# Altium integrated library ST Microcontroller 8-Bit.IntLib: 1326 symbols (part 20 of 31)
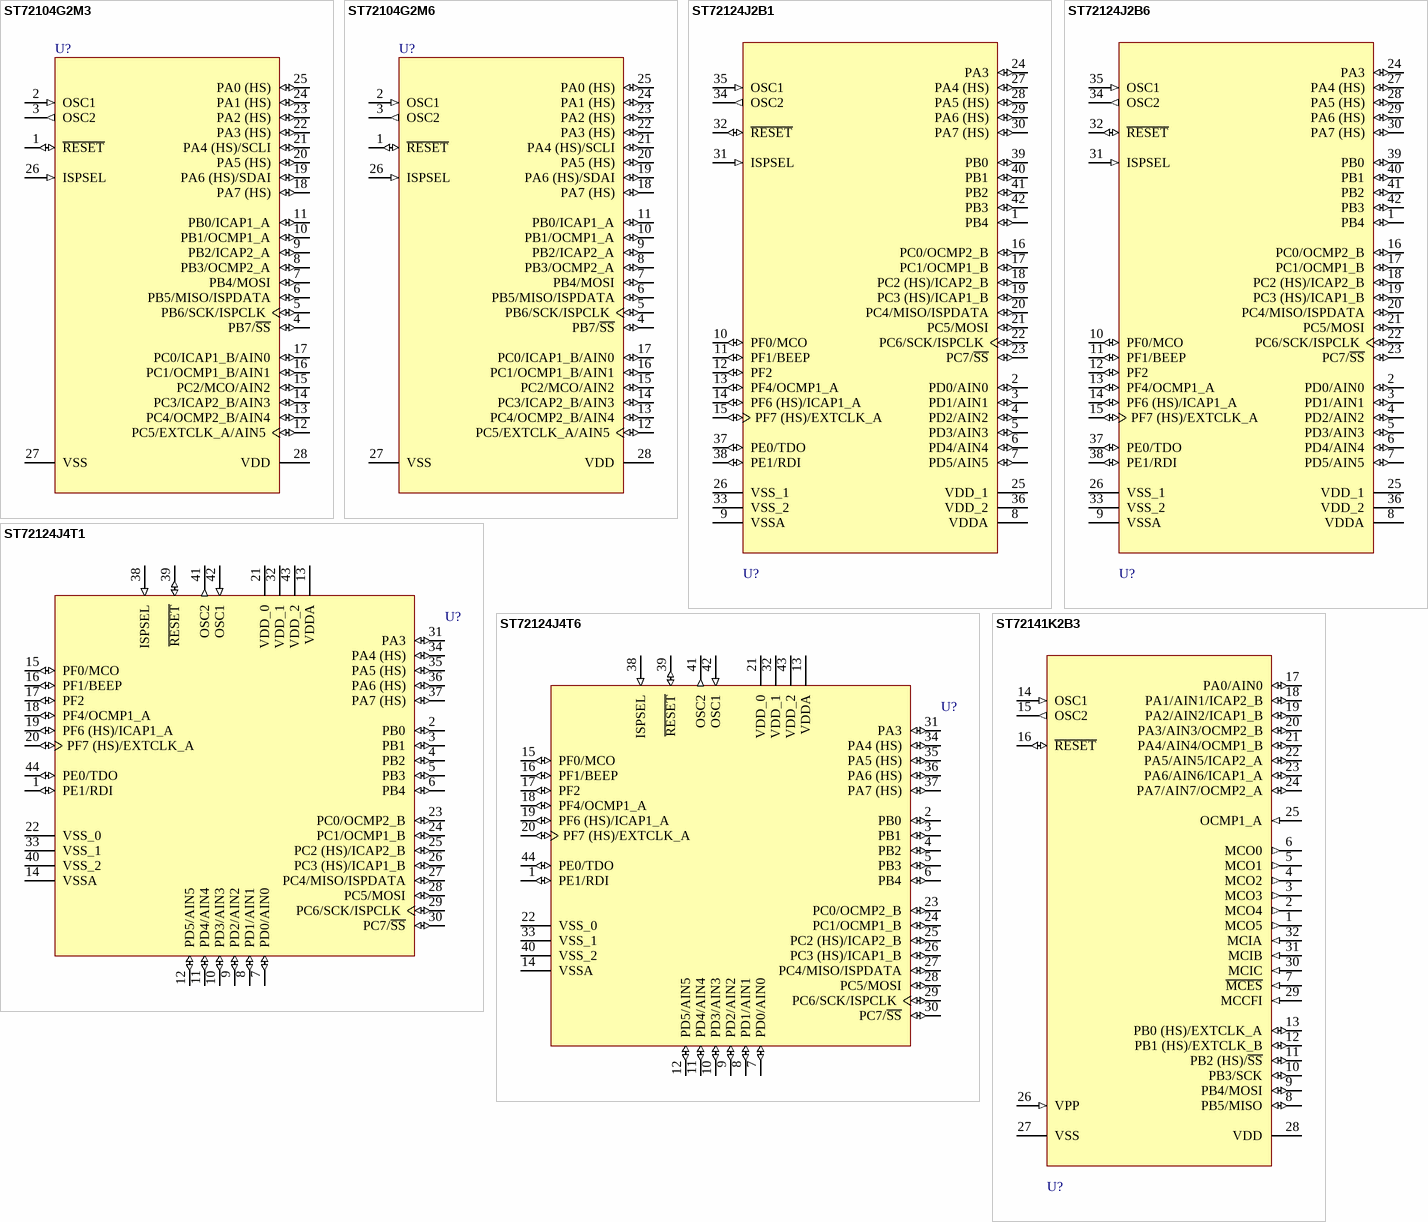
[diagram p186: symbols ST72104G2M3 to ST72141K2B3]

## ST72141K2B3
designator U?
8-Bit 8k ROM MCU with Electric Motor Control, ADC, 16-Bit Timers, SPI Interface, 32-Pin PDIP, Automotive; PackageDocument: rev1.7, Oct-2001; Note: Pins 8-13 and 17-24 are External Interrupt (EI) pins.; Published: 26-May-2004; DatasheetDocument: rev1.8, Oct-2001; PackageReference: PSDIP32; Publisher: Altium Limited
footprint PSDIP32 (DIP, Plastic Shrink; 32 Leads; Row Spacing 10.16 mm; Pitch 1.78 mm)
pins: 1 MCO5 (out), 2 MCO4 (out), 3 MCO3 (out), 4 MCO2 (out), 5 MCO1 (out), 6 MCO0 (out), 7 ~{MCES} (in), 8 PB5/MISO (io), 9 PB4/MOSI (io), 10 PB3/SCK (io), 11 PB2 (HS)/~{SS} (io), 12 PB1 (HS)/EXTCLK_B (io), 13 PB0 (HS)/EXTCLK_A (io), 14 OSC1 (in), 15 OSC2 (out), 16 ~{RESET} (io), 17 PA0/AIN0 (io), 18 PA1/AIN1/ICAP2_B (io), 19 PA2/AIN2/ICAP1_B (io), 20 PA3/AIN3/OCMP2_B (io), 21 PA4/AIN4/OCMP1_B (io), 22 PA5/AIN5/ICAP2_A (io), 23 PA6/AIN6/ICAP1_A (io), 24 PA7/AIN7/OCMP2_A (io), 25 OCMP1_A (in), 26 VPP (in), 27 VSS (power), 28 VDD (power), 29 MCCFI (in), 30 MCIC (in), 31 MCIB (in), 32 MCIA (in)

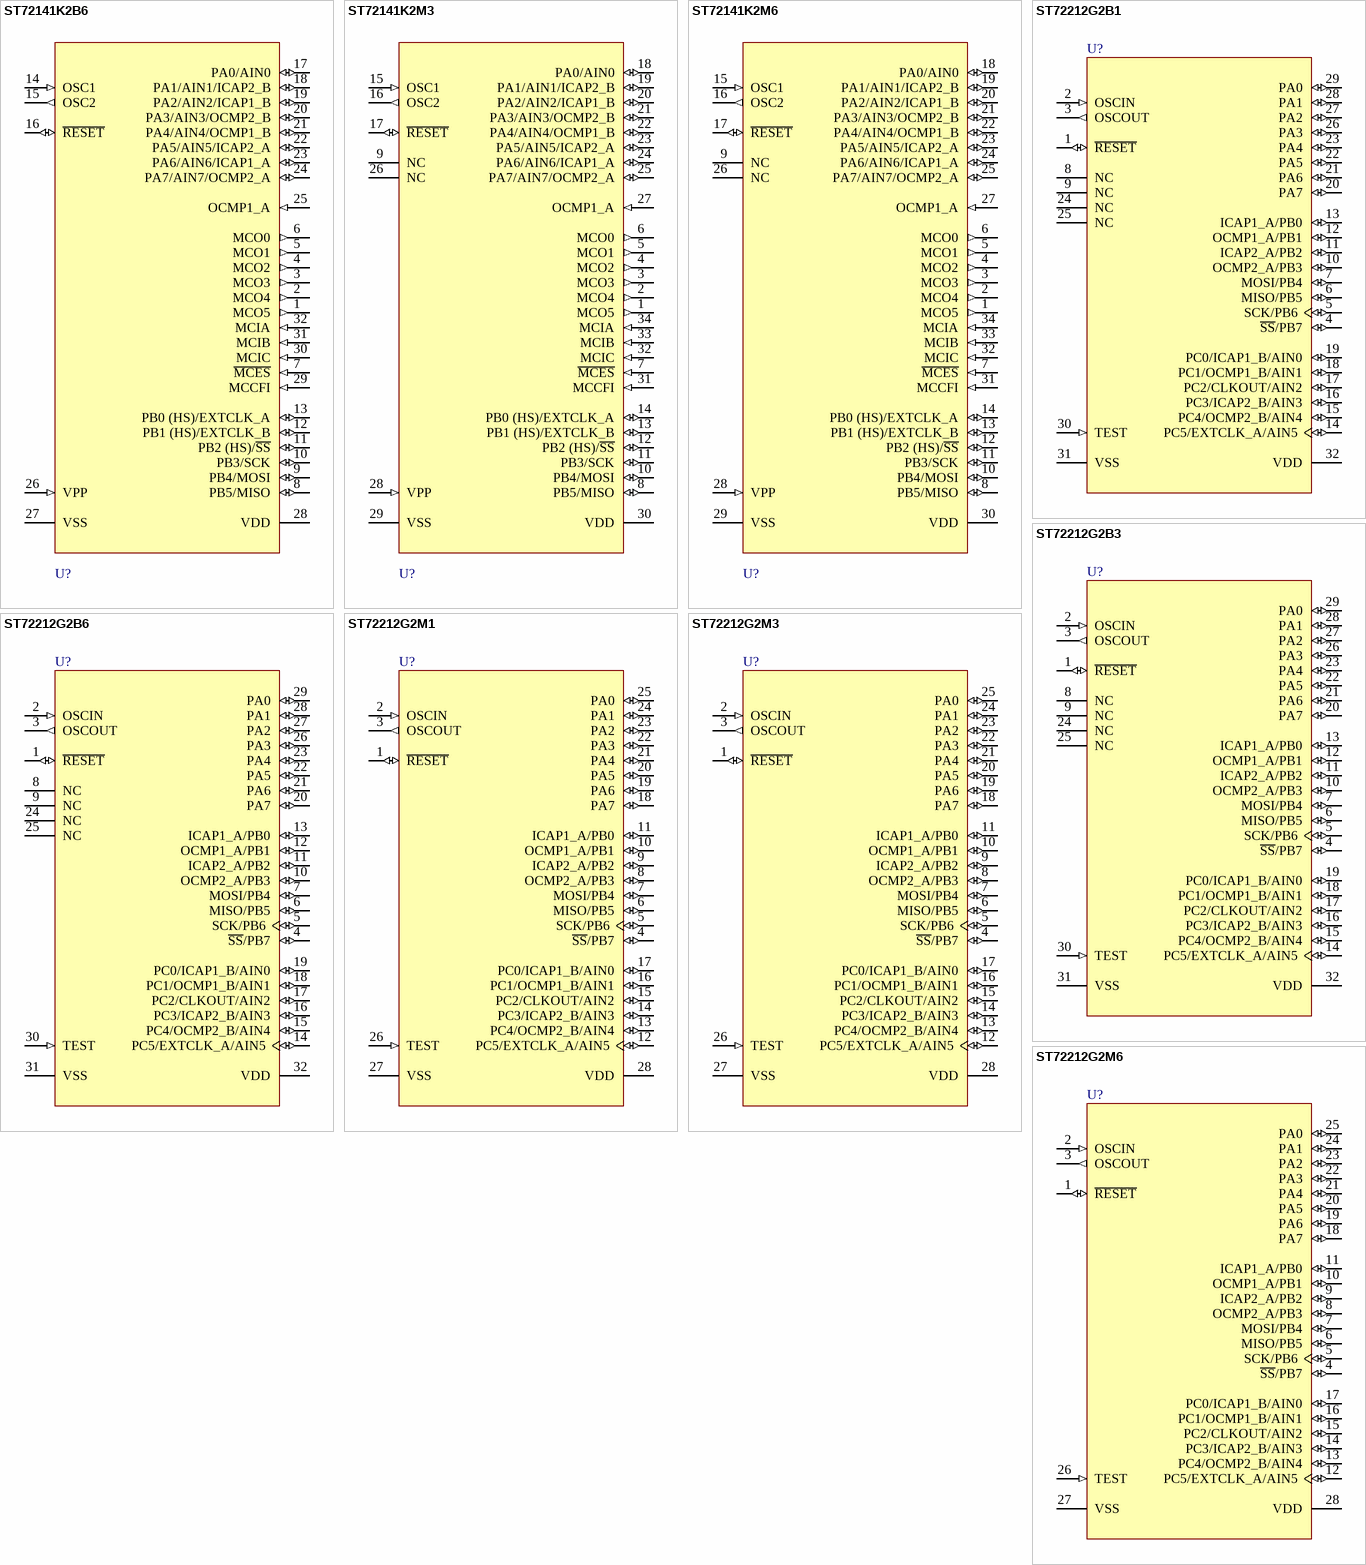
[diagram p98: symbols ST72141K2B6 to ST72212G2M6]

## ST72141K2B6
designator U?
8-Bit 8k ROM MCU with Electric Motor Control, ADC, 16-Bit Timers, SPI Interface, 32-Pin PDIP, Industrial; PackageDocument: rev1.7, Oct-2001; Note: Pins 8-13 and 17-24 are External Interrupt (EI) pins.; Published: 26-May-2004; DatasheetDocument: rev1.8, Oct-2001; PackageReference: PSDIP32; Publisher: Altium Limited
footprint PSDIP32 (DIP, Plastic Shrink; 32 Leads; Row Spacing 10.16 mm; Pitch 1.78 mm)
pins: 1 MCO5 (out), 2 MCO4 (out), 3 MCO3 (out), 4 MCO2 (out), 5 MCO1 (out), 6 MCO0 (out), 7 ~{MCES} (in), 8 PB5/MISO (io), 9 PB4/MOSI (io), 10 PB3/SCK (io), 11 PB2 (HS)/~{SS} (io), 12 PB1 (HS)/EXTCLK_B (io), 13 PB0 (HS)/EXTCLK_A (io), 14 OSC1 (in), 15 OSC2 (out), 16 ~{RESET} (io), 17 PA0/AIN0 (io), 18 PA1/AIN1/ICAP2_B (io), 19 PA2/AIN2/ICAP1_B (io), 20 PA3/AIN3/OCMP2_B (io), 21 PA4/AIN4/OCMP1_B (io), 22 PA5/AIN5/ICAP2_A (io), 23 PA6/AIN6/ICAP1_A (io), 24 PA7/AIN7/OCMP2_A (io), 25 OCMP1_A (in), 26 VPP (in), 27 VSS (power), 28 VDD (power), 29 MCCFI (in), 30 MCIC (in), 31 MCIB (in), 32 MCIA (in)

## ST72141K2M3
designator U?
8-Bit 8k ROM MCU with Electric Motor Control, ADC, 16-Bit Timers, SPI Interface, 34-Pin SOIC, Automotive; PackageDocument: rev1.7, Oct-2001; Note: Pins 8, 10-14 and 18-25 are External Interrupt (EI) pins.; Published: 26-May-2004; DatasheetDocument: rev1.8, Oct-2001; PackageReference: SO34S; Publisher: Altium Limited
footprint SO34S (Small Outline, Plastic; 34 Leads; Body Width 7.5 mm; Pitch 1.02 mm)
pins: 1 MCO5 (out), 2 MCO4 (out), 3 MCO3 (out), 4 MCO2 (out), 5 MCO1 (out), 6 MCO0 (out), 7 ~{MCES} (in), 8 PB5/MISO (io), 9 NC, 10 PB4/MOSI (io), 11 PB3/SCK (io), 12 PB2 (HS)/~{SS} (io), 13 PB1 (HS)/EXTCLK_B (io), 14 PB0 (HS)/EXTCLK_A (io), 15 OSC1 (in), 16 OSC2 (out), 17 ~{RESET} (io), 18 PA0/AIN0 (io), 19 PA1/AIN1/ICAP2_B (io), 20 PA2/AIN2/ICAP1_B (io), 21 PA3/AIN3/OCMP2_B (io), 22 PA4/AIN4/OCMP1_B (io), 23 PA5/AIN5/ICAP2_A (io), 24 PA6/AIN6/ICAP1_A (io), 25 PA7/AIN7/OCMP2_A (io), 26 NC, 27 OCMP1_A (in), 28 VPP (in), 29 VSS (power), 30 VDD (power), 31 MCCFI (in), 32 MCIC (in), 33 MCIB (in), 34 MCIA (in)

## ST72141K2M6
designator U?
8-Bit 8k ROM MCU with Electric Motor Control, ADC, 16-Bit Timers, SPI Interface, 34-Pin SOIC, Industrial; PackageDocument: rev1.7, Oct-2001; Note: Pins 8, 10-14 and 18-25 are External Interrupt (EI) pins.; Published: 26-May-2004; DatasheetDocument: rev1.8, Oct-2001; PackageReference: SO34S; Publisher: Altium Limited
footprint SO34S (Small Outline, Plastic; 34 Leads; Body Width 7.5 mm; Pitch 1.02 mm)
pins: 1 MCO5 (out), 2 MCO4 (out), 3 MCO3 (out), 4 MCO2 (out), 5 MCO1 (out), 6 MCO0 (out), 7 ~{MCES} (in), 8 PB5/MISO (io), 9 NC, 10 PB4/MOSI (io), 11 PB3/SCK (io), 12 PB2 (HS)/~{SS} (io), 13 PB1 (HS)/EXTCLK_B (io), 14 PB0 (HS)/EXTCLK_A (io), 15 OSC1 (in), 16 OSC2 (out), 17 ~{RESET} (io), 18 PA0/AIN0 (io), 19 PA1/AIN1/ICAP2_B (io), 20 PA2/AIN2/ICAP1_B (io), 21 PA3/AIN3/OCMP2_B (io), 22 PA4/AIN4/OCMP1_B (io), 23 PA5/AIN5/ICAP2_A (io), 24 PA6/AIN6/ICAP1_A (io), 25 PA7/AIN7/OCMP2_A (io), 26 NC, 27 OCMP1_A (in), 28 VPP (in), 29 VSS (power), 30 VDD (power), 31 MCCFI (in), 32 MCIC (in), 33 MCIB (in), 34 MCIA (in)

## ST72212G2B1
designator U?
8-Bit 8k ROM MCU with 256b RAM, ADC, WDG, SPI and Two Timers, 32-Pin PDIP, Standard; PackageDocument: rev1.7, Oct-2001; Published: 26-May-2004; DatasheetDocument: rev1.8, May-2001; PackageReference: PSDIP32; Publisher: Altium Limited
footprint PSDIP32 (DIP, Plastic Shrink; 32 Leads; Row Spacing 10.16 mm; Pitch 1.78 mm)
pins: 1 ~{RESET} (io), 2 OSCIN (in), 3 OSCOUT (out), 4 ~{SS}/PB7 (io), 5 SCK/PB6 (io), 6 MISO/PB5 (io), 7 MOSI/PB4 (io), 8 NC, 9 NC, 10 OCMP2_A/PB3 (io), 11 ICAP2_A/PB2 (io), 12 OCMP1_A/PB1 (io), 13 ICAP1_A/PB0 (io), 14 PC5/EXTCLK_A/AIN5 (io), 15 PC4/OCMP2_B/AIN4 (io), 16 PC3/ICAP2_B/AIN3 (io), 17 PC2/CLKOUT/AIN2 (io), 18 PC1/OCMP1_B/AIN1 (io), 19 PC0/ICAP1_B/AIN0 (io), 20 PA7 (io), 21 PA6 (io), 22 PA5 (io), 23 PA4 (io), 24 NC, 25 NC, 26 PA3 (io), 27 PA2 (io), 28 PA1 (io), 29 PA0 (io), 30 TEST (in), 31 VSS (power), 32 VDD (power)

## ST72212G2B3
designator U?
8-Bit 8k ROM MCU with 256b RAM, ADC, WDG, SPI and Two Timers, 32-Pin PDIP, Automotive; PackageDocument: rev1.7, Oct-2001; Published: 26-May-2004; DatasheetDocument: rev1.8, May-2001; PackageReference: PSDIP32; Publisher: Altium Limited
footprint PSDIP32 (DIP, Plastic Shrink; 32 Leads; Row Spacing 10.16 mm; Pitch 1.78 mm)
pins: 1 ~{RESET} (io), 2 OSCIN (in), 3 OSCOUT (out), 4 ~{SS}/PB7 (io), 5 SCK/PB6 (io), 6 MISO/PB5 (io), 7 MOSI/PB4 (io), 8 NC, 9 NC, 10 OCMP2_A/PB3 (io), 11 ICAP2_A/PB2 (io), 12 OCMP1_A/PB1 (io), 13 ICAP1_A/PB0 (io), 14 PC5/EXTCLK_A/AIN5 (io), 15 PC4/OCMP2_B/AIN4 (io), 16 PC3/ICAP2_B/AIN3 (io), 17 PC2/CLKOUT/AIN2 (io), 18 PC1/OCMP1_B/AIN1 (io), 19 PC0/ICAP1_B/AIN0 (io), 20 PA7 (io), 21 PA6 (io), 22 PA5 (io), 23 PA4 (io), 24 NC, 25 NC, 26 PA3 (io), 27 PA2 (io), 28 PA1 (io), 29 PA0 (io), 30 TEST (in), 31 VSS (power), 32 VDD (power)

## ST72212G2B6
designator U?
8-Bit 8k ROM MCU with 256b RAM, ADC, WDG, SPI and Two Timers, 32-Pin PDIP, Industrial; PackageDocument: rev1.7, Oct-2001; Published: 26-May-2004; DatasheetDocument: rev1.8, May-2001; PackageReference: PSDIP32; Publisher: Altium Limited
footprint PSDIP32 (DIP, Plastic Shrink; 32 Leads; Row Spacing 10.16 mm; Pitch 1.78 mm)
pins: 1 ~{RESET} (io), 2 OSCIN (in), 3 OSCOUT (out), 4 ~{SS}/PB7 (io), 5 SCK/PB6 (io), 6 MISO/PB5 (io), 7 MOSI/PB4 (io), 8 NC, 9 NC, 10 OCMP2_A/PB3 (io), 11 ICAP2_A/PB2 (io), 12 OCMP1_A/PB1 (io), 13 ICAP1_A/PB0 (io), 14 PC5/EXTCLK_A/AIN5 (io), 15 PC4/OCMP2_B/AIN4 (io), 16 PC3/ICAP2_B/AIN3 (io), 17 PC2/CLKOUT/AIN2 (io), 18 PC1/OCMP1_B/AIN1 (io), 19 PC0/ICAP1_B/AIN0 (io), 20 PA7 (io), 21 PA6 (io), 22 PA5 (io), 23 PA4 (io), 24 NC, 25 NC, 26 PA3 (io), 27 PA2 (io), 28 PA1 (io), 29 PA0 (io), 30 TEST (in), 31 VSS (power), 32 VDD (power)

## ST72212G2M1
designator U?
8-Bit 8k ROM MCU with 256b RAM, ADC, WDG, SPI and Two Timers, 28-Pin SOIC, Standard; Published: 26-May-2004; DatasheetDocument: rev1.8, May-2001; PackageDocument: Jul-2001; PackageReference: SO28; Publisher: Altium Limited; Code_IPC: SO28W
footprint SO28 (Small Outline, Plastic; 28 Leads; Body Width 7.5 mm; Pitch 1.27 mm)
pins: 1 ~{RESET} (io), 2 OSCIN (in), 3 OSCOUT (out), 4 ~{SS}/PB7 (io), 5 SCK/PB6 (io), 6 MISO/PB5 (io), 7 MOSI/PB4 (io), 8 OCMP2_A/PB3 (io), 9 ICAP2_A/PB2 (io), 10 OCMP1_A/PB1 (io), 11 ICAP1_A/PB0 (io), 12 PC5/EXTCLK_A/AIN5 (io), 13 PC4/OCMP2_B/AIN4 (io), 14 PC3/ICAP2_B/AIN3 (io), 15 PC2/CLKOUT/AIN2 (io), 16 PC1/OCMP1_B/AIN1 (io), 17 PC0/ICAP1_B/AIN0 (io), 18 PA7 (io), 19 PA6 (io), 20 PA5 (io), 21 PA4 (io), 22 PA3 (io), 23 PA2 (io), 24 PA1 (io), 25 PA0 (io), 26 TEST (in), 27 VSS (power), 28 VDD (power)

## ST72212G2M3
designator U?
8-Bit 8k ROM MCU with 256b RAM, ADC, WDG, SPI and Two Timers, 28-Pin SOIC, Automotive; Published: 26-May-2004; DatasheetDocument: rev1.8, May-2001; PackageDocument: Jul-2001; PackageReference: SO28; Publisher: Altium Limited; Code_IPC: SO28W
footprint SO28 (Small Outline, Plastic; 28 Leads; Body Width 7.5 mm; Pitch 1.27 mm)
pins: 1 ~{RESET} (io), 2 OSCIN (in), 3 OSCOUT (out), 4 ~{SS}/PB7 (io), 5 SCK/PB6 (io), 6 MISO/PB5 (io), 7 MOSI/PB4 (io), 8 OCMP2_A/PB3 (io), 9 ICAP2_A/PB2 (io), 10 OCMP1_A/PB1 (io), 11 ICAP1_A/PB0 (io), 12 PC5/EXTCLK_A/AIN5 (io), 13 PC4/OCMP2_B/AIN4 (io), 14 PC3/ICAP2_B/AIN3 (io), 15 PC2/CLKOUT/AIN2 (io), 16 PC1/OCMP1_B/AIN1 (io), 17 PC0/ICAP1_B/AIN0 (io), 18 PA7 (io), 19 PA6 (io), 20 PA5 (io), 21 PA4 (io), 22 PA3 (io), 23 PA2 (io), 24 PA1 (io), 25 PA0 (io), 26 TEST (in), 27 VSS (power), 28 VDD (power)

## ST72212G2M6
designator U?
8-Bit 8k ROM MCU with 256b RAM, ADC, WDG, SPI and Two Timers, 28-Pin SOIC, Industrial; Published: 26-May-2004; DatasheetDocument: rev1.8, May-2001; PackageDocument: Jul-2001; PackageReference: SO28; Publisher: Altium Limited; Code_IPC: SO28W
footprint SO28 (Small Outline, Plastic; 28 Leads; Body Width 7.5 mm; Pitch 1.27 mm)
pins: 1 ~{RESET} (io), 2 OSCIN (in), 3 OSCOUT (out), 4 ~{SS}/PB7 (io), 5 SCK/PB6 (io), 6 MISO/PB5 (io), 7 MOSI/PB4 (io), 8 OCMP2_A/PB3 (io), 9 ICAP2_A/PB2 (io), 10 OCMP1_A/PB1 (io), 11 ICAP1_A/PB0 (io), 12 PC5/EXTCLK_A/AIN5 (io), 13 PC4/OCMP2_B/AIN4 (io), 14 PC3/ICAP2_B/AIN3 (io), 15 PC2/CLKOUT/AIN2 (io), 16 PC1/OCMP1_B/AIN1 (io), 17 PC0/ICAP1_B/AIN0 (io), 18 PA7 (io), 19 PA6 (io), 20 PA5 (io), 21 PA4 (io), 22 PA3 (io), 23 PA2 (io), 24 PA1 (io), 25 PA0 (io), 26 TEST (in), 27 VSS (power), 28 VDD (power)

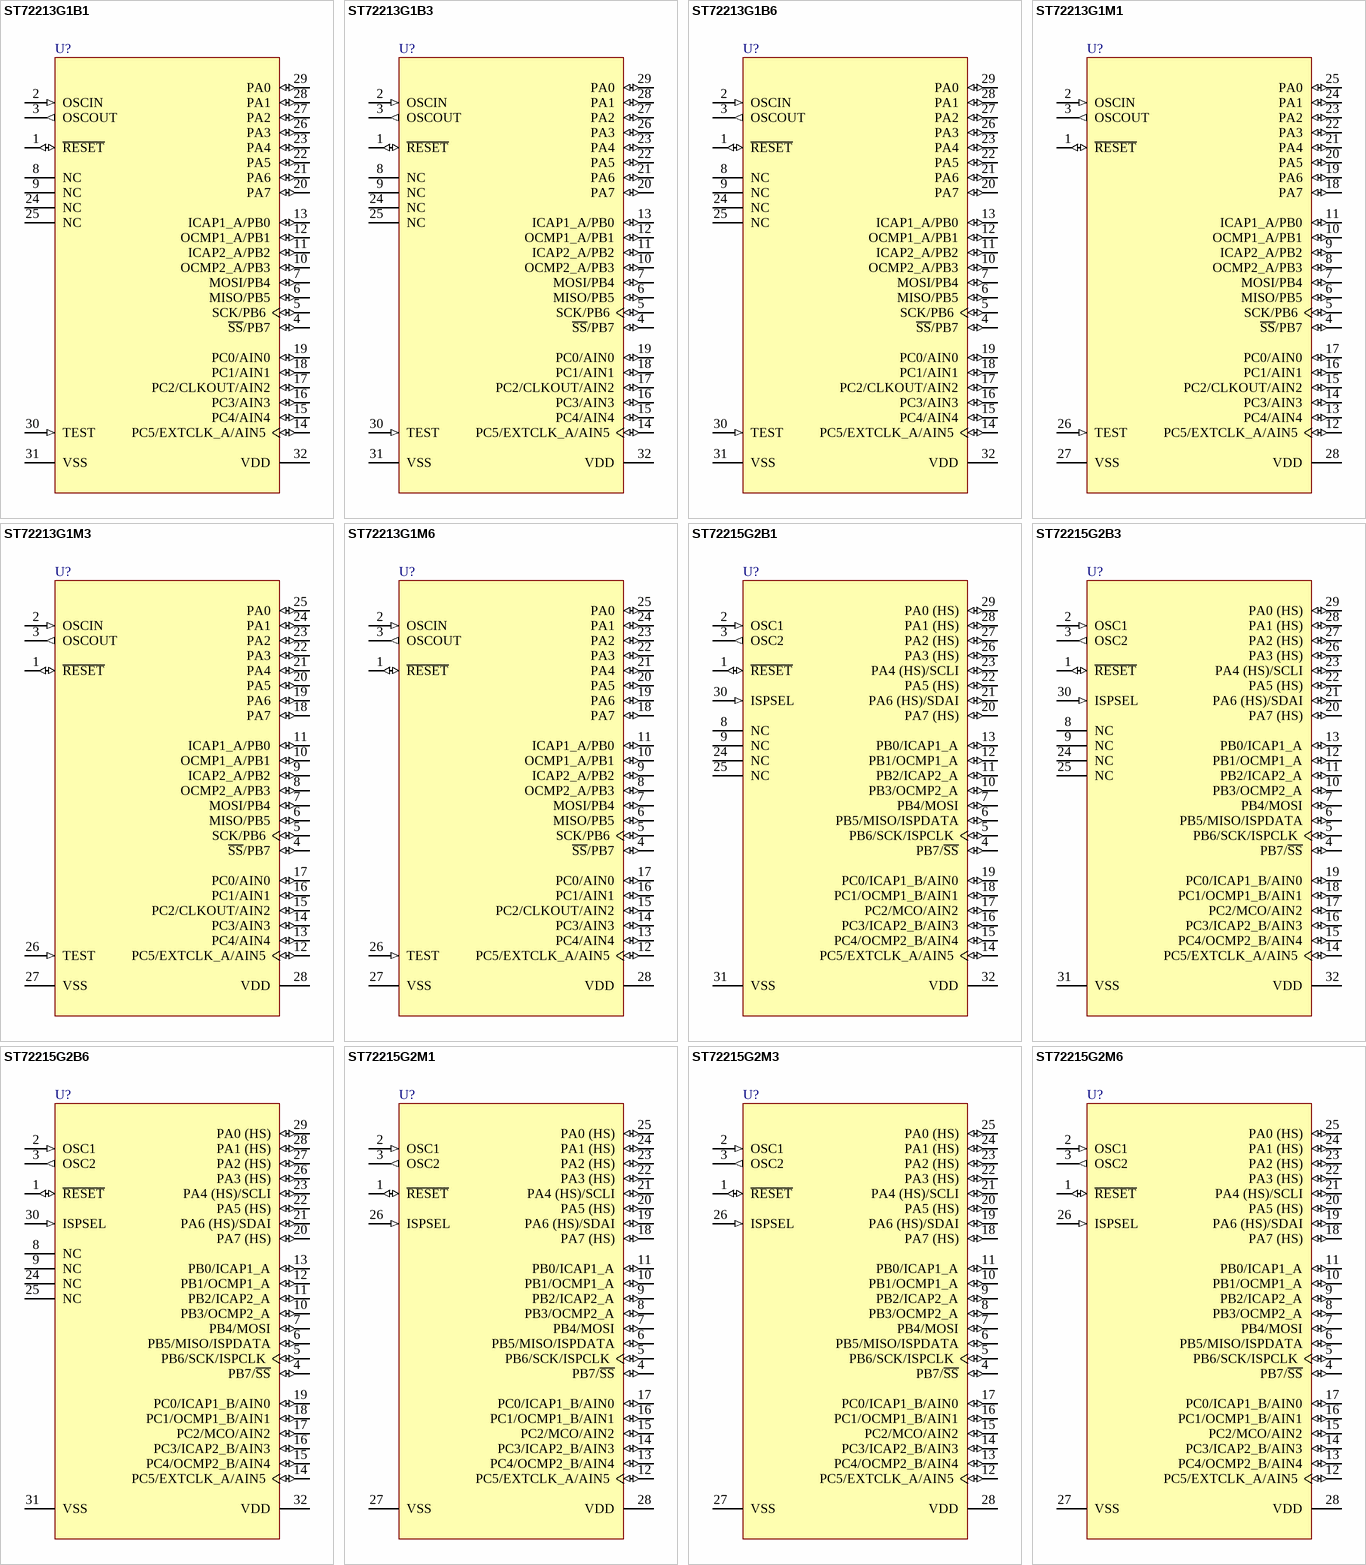
[diagram p99: symbols ST72213G1B1 to ST72215G2M6]

## ST72213G1B1
designator U?
8-Bit 4k ROM MCU with 256b RAM, ADC, WDG, SPI and One Timer, 32-Pin PDIP, Standard; PackageDocument: rev1.7, Oct-2001; Published: 26-May-2004; DatasheetDocument: rev1.8, May-2001; PackageReference: PSDIP32; Publisher: Altium Limited
footprint PSDIP32 (DIP, Plastic Shrink; 32 Leads; Row Spacing 10.16 mm; Pitch 1.78 mm)
pins: 1 ~{RESET} (io), 2 OSCIN (in), 3 OSCOUT (out), 4 ~{SS}/PB7 (io), 5 SCK/PB6 (io), 6 MISO/PB5 (io), 7 MOSI/PB4 (io), 8 NC, 9 NC, 10 OCMP2_A/PB3 (io), 11 ICAP2_A/PB2 (io), 12 OCMP1_A/PB1 (io), 13 ICAP1_A/PB0 (io), 14 PC5/EXTCLK_A/AIN5 (io), 15 PC4/AIN4 (io), 16 PC3/AIN3 (io), 17 PC2/CLKOUT/AIN2 (io), 18 PC1/AIN1 (io), 19 PC0/AIN0 (io), 20 PA7 (io), 21 PA6 (io), 22 PA5 (io), 23 PA4 (io), 24 NC, 25 NC, 26 PA3 (io), 27 PA2 (io), 28 PA1 (io), 29 PA0 (io), 30 TEST (in), 31 VSS (power), 32 VDD (power)

## ST72213G1B3
designator U?
8-Bit 4k ROM MCU with 256b RAM, ADC, WDG, SPI and One Timer, 32-Pin PDIP, Automotive; PackageDocument: rev1.7, Oct-2001; Published: 26-May-2004; DatasheetDocument: rev1.8, May-2001; PackageReference: PSDIP32; Publisher: Altium Limited
footprint PSDIP32 (DIP, Plastic Shrink; 32 Leads; Row Spacing 10.16 mm; Pitch 1.78 mm)
pins: 1 ~{RESET} (io), 2 OSCIN (in), 3 OSCOUT (out), 4 ~{SS}/PB7 (io), 5 SCK/PB6 (io), 6 MISO/PB5 (io), 7 MOSI/PB4 (io), 8 NC, 9 NC, 10 OCMP2_A/PB3 (io), 11 ICAP2_A/PB2 (io), 12 OCMP1_A/PB1 (io), 13 ICAP1_A/PB0 (io), 14 PC5/EXTCLK_A/AIN5 (io), 15 PC4/AIN4 (io), 16 PC3/AIN3 (io), 17 PC2/CLKOUT/AIN2 (io), 18 PC1/AIN1 (io), 19 PC0/AIN0 (io), 20 PA7 (io), 21 PA6 (io), 22 PA5 (io), 23 PA4 (io), 24 NC, 25 NC, 26 PA3 (io), 27 PA2 (io), 28 PA1 (io), 29 PA0 (io), 30 TEST (in), 31 VSS (power), 32 VDD (power)

## ST72213G1B6
designator U?
8-Bit 4k ROM MCU with 256b RAM, ADC, WDG, SPI and One Timer, 32-Pin PDIP, Industrial; PackageDocument: rev1.7, Oct-2001; Published: 26-May-2004; DatasheetDocument: rev1.8, May-2001; PackageReference: PSDIP32; Publisher: Altium Limited
footprint PSDIP32 (DIP, Plastic Shrink; 32 Leads; Row Spacing 10.16 mm; Pitch 1.78 mm)
pins: 1 ~{RESET} (io), 2 OSCIN (in), 3 OSCOUT (out), 4 ~{SS}/PB7 (io), 5 SCK/PB6 (io), 6 MISO/PB5 (io), 7 MOSI/PB4 (io), 8 NC, 9 NC, 10 OCMP2_A/PB3 (io), 11 ICAP2_A/PB2 (io), 12 OCMP1_A/PB1 (io), 13 ICAP1_A/PB0 (io), 14 PC5/EXTCLK_A/AIN5 (io), 15 PC4/AIN4 (io), 16 PC3/AIN3 (io), 17 PC2/CLKOUT/AIN2 (io), 18 PC1/AIN1 (io), 19 PC0/AIN0 (io), 20 PA7 (io), 21 PA6 (io), 22 PA5 (io), 23 PA4 (io), 24 NC, 25 NC, 26 PA3 (io), 27 PA2 (io), 28 PA1 (io), 29 PA0 (io), 30 TEST (in), 31 VSS (power), 32 VDD (power)

## ST72213G1M1
designator U?
8-Bit 4k ROM MCU with 256b RAM, ADC, WDG, SPI and One Timer, 28-Pin SOIC, Standard; Published: 26-May-2004; DatasheetDocument: rev1.8, May-2001; PackageDocument: Jul-2001; PackageReference: SO28; Publisher: Altium Limited; Code_IPC: SO28W
footprint SO28 (Small Outline, Plastic; 28 Leads; Body Width 7.5 mm; Pitch 1.27 mm)
pins: 1 ~{RESET} (io), 2 OSCIN (in), 3 OSCOUT (out), 4 ~{SS}/PB7 (io), 5 SCK/PB6 (io), 6 MISO/PB5 (io), 7 MOSI/PB4 (io), 8 OCMP2_A/PB3 (io), 9 ICAP2_A/PB2 (io), 10 OCMP1_A/PB1 (io), 11 ICAP1_A/PB0 (io), 12 PC5/EXTCLK_A/AIN5 (io), 13 PC4/AIN4 (io), 14 PC3/AIN3 (io), 15 PC2/CLKOUT/AIN2 (io), 16 PC1/AIN1 (io), 17 PC0/AIN0 (io), 18 PA7 (io), 19 PA6 (io), 20 PA5 (io), 21 PA4 (io), 22 PA3 (io), 23 PA2 (io), 24 PA1 (io), 25 PA0 (io), 26 TEST (in), 27 VSS (power), 28 VDD (power)

## ST72213G1M3
designator U?
8-Bit 4k ROM MCU with 256b RAM, ADC, WDG, SPI and One Timer, 28-Pin SOIC, Automotive; Published: 26-May-2004; DatasheetDocument: rev1.8, May-2001; PackageDocument: Jul-2001; PackageReference: SO28; Publisher: Altium Limited; Code_IPC: SO28W
footprint SO28 (Small Outline, Plastic; 28 Leads; Body Width 7.5 mm; Pitch 1.27 mm)
pins: 1 ~{RESET} (io), 2 OSCIN (in), 3 OSCOUT (out), 4 ~{SS}/PB7 (io), 5 SCK/PB6 (io), 6 MISO/PB5 (io), 7 MOSI/PB4 (io), 8 OCMP2_A/PB3 (io), 9 ICAP2_A/PB2 (io), 10 OCMP1_A/PB1 (io), 11 ICAP1_A/PB0 (io), 12 PC5/EXTCLK_A/AIN5 (io), 13 PC4/AIN4 (io), 14 PC3/AIN3 (io), 15 PC2/CLKOUT/AIN2 (io), 16 PC1/AIN1 (io), 17 PC0/AIN0 (io), 18 PA7 (io), 19 PA6 (io), 20 PA5 (io), 21 PA4 (io), 22 PA3 (io), 23 PA2 (io), 24 PA1 (io), 25 PA0 (io), 26 TEST (in), 27 VSS (power), 28 VDD (power)

## ST72213G1M6
designator U?
8-Bit 4k ROM MCU with 256b RAM, ADC, WDG, SPI and One Timer, 28-Pin SOIC, Industrial; Published: 26-May-2004; DatasheetDocument: rev1.8, May-2001; PackageDocument: Jul-2001; PackageReference: SO28; Publisher: Altium Limited; Code_IPC: SO28W
footprint SO28 (Small Outline, Plastic; 28 Leads; Body Width 7.5 mm; Pitch 1.27 mm)
pins: 1 ~{RESET} (io), 2 OSCIN (in), 3 OSCOUT (out), 4 ~{SS}/PB7 (io), 5 SCK/PB6 (io), 6 MISO/PB5 (io), 7 MOSI/PB4 (io), 8 OCMP2_A/PB3 (io), 9 ICAP2_A/PB2 (io), 10 OCMP1_A/PB1 (io), 11 ICAP1_A/PB0 (io), 12 PC5/EXTCLK_A/AIN5 (io), 13 PC4/AIN4 (io), 14 PC3/AIN3 (io), 15 PC2/CLKOUT/AIN2 (io), 16 PC1/AIN1 (io), 17 PC0/AIN0 (io), 18 PA7 (io), 19 PA6 (io), 20 PA5 (io), 21 PA4 (io), 22 PA3 (io), 23 PA2 (io), 24 PA1 (io), 25 PA0 (io), 26 TEST (in), 27 VSS (power), 28 VDD (power)

## ST72215G2B1
designator U?
8-Bit 8k ROM MCU, 256b RAM, WDG, ADC, 16-Bit Timers, SPI Interface, 32-Pin PDIP, Standard; PackageDocument: rev1.7, Oct-2001; Note: Pins 4-7, 14-23 and 26-29 are External Interrupt (EI) pins.; Published: 26-May-2004; DatasheetDocument: rev2.6, Nov-2000; PackageReference: PSDIP32; Publisher: Altium Limited
footprint PSDIP32 (DIP, Plastic Shrink; 32 Leads; Row Spacing 10.16 mm; Pitch 1.78 mm)
pins: 1 ~{RESET} (io), 2 OSC1 (in), 3 OSC2 (out), 4 PB7/~{SS} (io), 5 PB6/SCK/ISPCLK (io), 6 PB5/MISO/ISPDATA (io), 7 PB4/MOSI (io), 8 NC, 9 NC, 10 PB3/OCMP2_A (io), 11 PB2/ICAP2_A (io), 12 PB1/OCMP1_A (io), 13 PB0/ICAP1_A (io), 14 PC5/EXTCLK_A/AIN5 (io), 15 PC4/OCMP2_B/AIN4 (io), 16 PC3/ICAP2_B/AIN3 (io), 17 PC2/MCO/AIN2 (io), 18 PC1/OCMP1_B/AIN1 (io), 19 PC0/ICAP1_B/AIN0 (io), 20 PA7 (HS) (io), 21 PA6 (HS)/SDAI (io), 22 PA5 (HS) (io), 23 PA4 (HS)/SCLI (io), 24 NC, 25 NC, 26 PA3 (HS) (io), 27 PA2 (HS) (io), 28 PA1 (HS) (io), 29 PA0 (HS) (io), 30 ISPSEL (in), 31 VSS (power), 32 VDD (power)

## ST72215G2B3
designator U?
8-Bit 8k ROM MCU, 256b RAM, WDG, ADC, 16-Bit Timers, SPI Interface, 32-Pin PDIP, Automotive; PackageDocument: rev1.7, Oct-2001; Note: Pins 4-7, 14-23 and 26-29 are External Interrupt (EI) pins.; Published: 26-May-2004; DatasheetDocument: rev2.6, Nov-2000; PackageReference: PSDIP32; Publisher: Altium Limited
footprint PSDIP32 (DIP, Plastic Shrink; 32 Leads; Row Spacing 10.16 mm; Pitch 1.78 mm)
pins: 1 ~{RESET} (io), 2 OSC1 (in), 3 OSC2 (out), 4 PB7/~{SS} (io), 5 PB6/SCK/ISPCLK (io), 6 PB5/MISO/ISPDATA (io), 7 PB4/MOSI (io), 8 NC, 9 NC, 10 PB3/OCMP2_A (io), 11 PB2/ICAP2_A (io), 12 PB1/OCMP1_A (io), 13 PB0/ICAP1_A (io), 14 PC5/EXTCLK_A/AIN5 (io), 15 PC4/OCMP2_B/AIN4 (io), 16 PC3/ICAP2_B/AIN3 (io), 17 PC2/MCO/AIN2 (io), 18 PC1/OCMP1_B/AIN1 (io), 19 PC0/ICAP1_B/AIN0 (io), 20 PA7 (HS) (io), 21 PA6 (HS)/SDAI (io), 22 PA5 (HS) (io), 23 PA4 (HS)/SCLI (io), 24 NC, 25 NC, 26 PA3 (HS) (io), 27 PA2 (HS) (io), 28 PA1 (HS) (io), 29 PA0 (HS) (io), 30 ISPSEL (in), 31 VSS (power), 32 VDD (power)

## ST72215G2B6
designator U?
8-Bit 8k ROM MCU, 256b RAM, WDG, ADC, 16-Bit Timers, SPI Interface, 32-Pin PDIP, Industrial; PackageDocument: rev1.7, Oct-2001; Note: Pins 4-7, 14-23 and 26-29 are External Interrupt (EI) pins.; Published: 26-May-2004; DatasheetDocument: rev2.6, Nov-2000; PackageReference: PSDIP32; Publisher: Altium Limited
footprint PSDIP32 (DIP, Plastic Shrink; 32 Leads; Row Spacing 10.16 mm; Pitch 1.78 mm)
pins: 1 ~{RESET} (io), 2 OSC1 (in), 3 OSC2 (out), 4 PB7/~{SS} (io), 5 PB6/SCK/ISPCLK (io), 6 PB5/MISO/ISPDATA (io), 7 PB4/MOSI (io), 8 NC, 9 NC, 10 PB3/OCMP2_A (io), 11 PB2/ICAP2_A (io), 12 PB1/OCMP1_A (io), 13 PB0/ICAP1_A (io), 14 PC5/EXTCLK_A/AIN5 (io), 15 PC4/OCMP2_B/AIN4 (io), 16 PC3/ICAP2_B/AIN3 (io), 17 PC2/MCO/AIN2 (io), 18 PC1/OCMP1_B/AIN1 (io), 19 PC0/ICAP1_B/AIN0 (io), 20 PA7 (HS) (io), 21 PA6 (HS)/SDAI (io), 22 PA5 (HS) (io), 23 PA4 (HS)/SCLI (io), 24 NC, 25 NC, 26 PA3 (HS) (io), 27 PA2 (HS) (io), 28 PA1 (HS) (io), 29 PA0 (HS) (io), 30 ISPSEL (in), 31 VSS (power), 32 VDD (power)

## ST72215G2M1
designator U?
8-Bit 8k ROM MCU, 256b RAM, WDG, ADC, 16-Bit Timers, SPI Interface, 28-Pin SOIC, Standard; Note: Pins 4-25 are External Interrupt (EI) pins.; Published: 26-May-2004; DatasheetDocument: rev2.6, Nov-2000; PackageDocument: Jul-2001; PackageReference: SO28; Publisher: Altium Limited; Code_IPC: SO28W
footprint SO28 (Small Outline, Plastic; 28 Leads; Body Width 7.5 mm; Pitch 1.27 mm)
pins: 1 ~{RESET} (io), 2 OSC1 (in), 3 OSC2 (out), 4 PB7/~{SS} (io), 5 PB6/SCK/ISPCLK (io), 6 PB5/MISO/ISPDATA (io), 7 PB4/MOSI (io), 8 PB3/OCMP2_A (io), 9 PB2/ICAP2_A (io), 10 PB1/OCMP1_A (io), 11 PB0/ICAP1_A (io), 12 PC5/EXTCLK_A/AIN5 (io), 13 PC4/OCMP2_B/AIN4 (io), 14 PC3/ICAP2_B/AIN3 (io), 15 PC2/MCO/AIN2 (io), 16 PC1/OCMP1_B/AIN1 (io), 17 PC0/ICAP1_B/AIN0 (io), 18 PA7 (HS) (io), 19 PA6 (HS)/SDAI (io), 20 PA5 (HS) (io), 21 PA4 (HS)/SCLI (io), 22 PA3 (HS) (io), 23 PA2 (HS) (io), 24 PA1 (HS) (io), 25 PA0 (HS) (io), 26 ISPSEL (in), 27 VSS (power), 28 VDD (power)

## ST72215G2M3
designator U?
8-Bit 8k ROM MCU, 256b RAM, WDG, ADC, 16-Bit Timers, SPI Interface, 28-Pin SOIC, Automotive; Note: Pins 4-25 are External Interrupt (EI) pins.; Published: 26-May-2004; DatasheetDocument: rev2.6, Nov-2000; PackageDocument: Jul-2001; PackageReference: SO28; Publisher: Altium Limited; Code_IPC: SO28W
footprint SO28 (Small Outline, Plastic; 28 Leads; Body Width 7.5 mm; Pitch 1.27 mm)
pins: 1 ~{RESET} (io), 2 OSC1 (in), 3 OSC2 (out), 4 PB7/~{SS} (io), 5 PB6/SCK/ISPCLK (io), 6 PB5/MISO/ISPDATA (io), 7 PB4/MOSI (io), 8 PB3/OCMP2_A (io), 9 PB2/ICAP2_A (io), 10 PB1/OCMP1_A (io), 11 PB0/ICAP1_A (io), 12 PC5/EXTCLK_A/AIN5 (io), 13 PC4/OCMP2_B/AIN4 (io), 14 PC3/ICAP2_B/AIN3 (io), 15 PC2/MCO/AIN2 (io), 16 PC1/OCMP1_B/AIN1 (io), 17 PC0/ICAP1_B/AIN0 (io), 18 PA7 (HS) (io), 19 PA6 (HS)/SDAI (io), 20 PA5 (HS) (io), 21 PA4 (HS)/SCLI (io), 22 PA3 (HS) (io), 23 PA2 (HS) (io), 24 PA1 (HS) (io), 25 PA0 (HS) (io), 26 ISPSEL (in), 27 VSS (power), 28 VDD (power)

## ST72215G2M6
designator U?
8-Bit 8k ROM MCU, 256b RAM, WDG, ADC, 16-Bit Timers, SPI Interface, 28-Pin SOIC, Industrial; Note: Pins 4-25 are External Interrupt (EI) pins.; Published: 26-May-2004; DatasheetDocument: rev2.6, Nov-2000; PackageDocument: Jul-2001; PackageReference: SO28; Publisher: Altium Limited; Code_IPC: SO28W
footprint SO28 (Small Outline, Plastic; 28 Leads; Body Width 7.5 mm; Pitch 1.27 mm)
pins: 1 ~{RESET} (io), 2 OSC1 (in), 3 OSC2 (out), 4 PB7/~{SS} (io), 5 PB6/SCK/ISPCLK (io), 6 PB5/MISO/ISPDATA (io), 7 PB4/MOSI (io), 8 PB3/OCMP2_A (io), 9 PB2/ICAP2_A (io), 10 PB1/OCMP1_A (io), 11 PB0/ICAP1_A (io), 12 PC5/EXTCLK_A/AIN5 (io), 13 PC4/OCMP2_B/AIN4 (io), 14 PC3/ICAP2_B/AIN3 (io), 15 PC2/MCO/AIN2 (io), 16 PC1/OCMP1_B/AIN1 (io), 17 PC0/ICAP1_B/AIN0 (io), 18 PA7 (HS) (io), 19 PA6 (HS)/SDAI (io), 20 PA5 (HS) (io), 21 PA4 (HS)/SCLI (io), 22 PA3 (HS) (io), 23 PA2 (HS) (io), 24 PA1 (HS) (io), 25 PA0 (HS) (io), 26 ISPSEL (in), 27 VSS (power), 28 VDD (power)

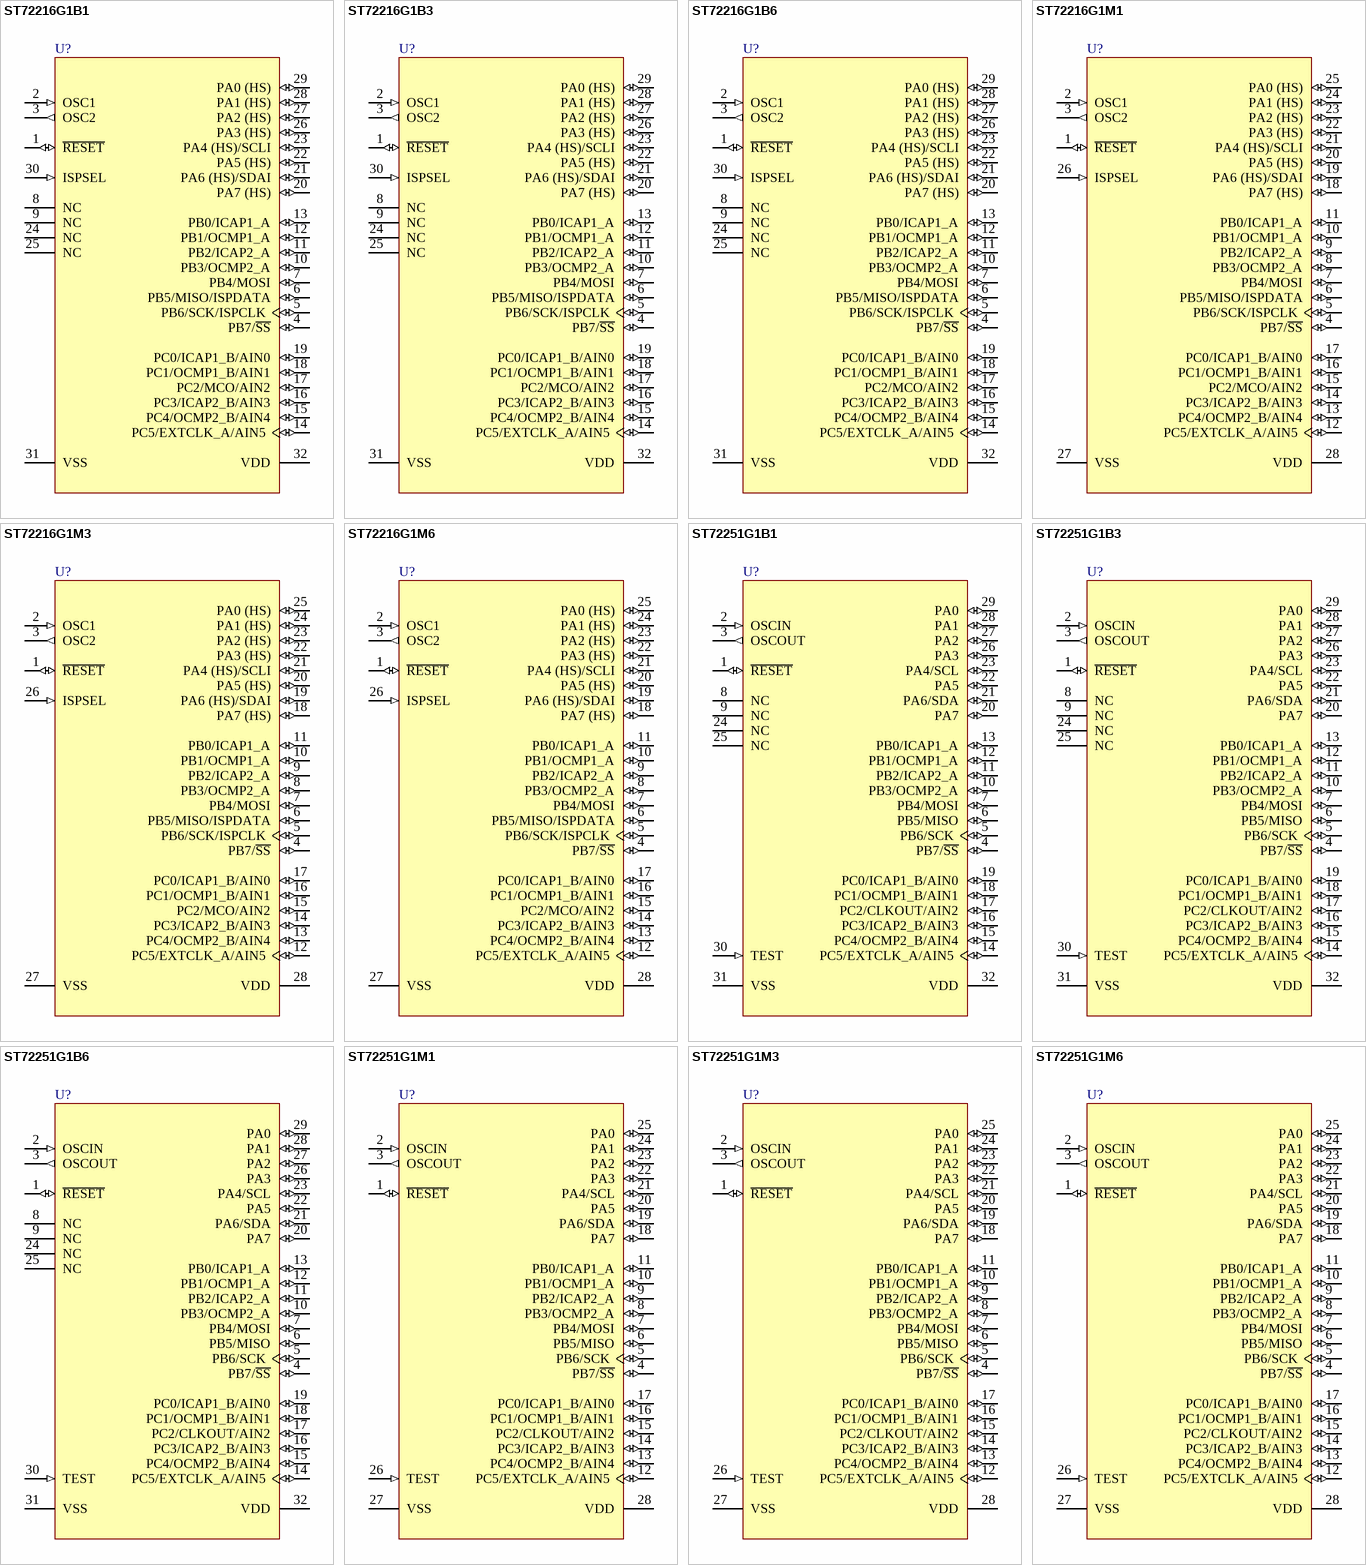
[diagram p100: symbols ST72216G1B1 to ST72251G1M6]

## ST72216G1B1
designator U?
8-Bit 4k ROM MCU, 256b RAM, WDG, ADC, 16-Bit Timer, SPI Interface, 32-Pin PDIP, Standard; PackageDocument: rev1.7, Oct-2001; Note: Pins 4-7, 14-23 and 26-29 are External Interrupt (EI) pins.; Published: 26-May-2004; DatasheetDocument: rev2.6, Nov-2000; PackageReference: PSDIP32; Publisher: Altium Limited
footprint PSDIP32 (DIP, Plastic Shrink; 32 Leads; Row Spacing 10.16 mm; Pitch 1.78 mm)
pins: 1 ~{RESET} (io), 2 OSC1 (in), 3 OSC2 (out), 4 PB7/~{SS} (io), 5 PB6/SCK/ISPCLK (io), 6 PB5/MISO/ISPDATA (io), 7 PB4/MOSI (io), 8 NC, 9 NC, 10 PB3/OCMP2_A (io), 11 PB2/ICAP2_A (io), 12 PB1/OCMP1_A (io), 13 PB0/ICAP1_A (io), 14 PC5/EXTCLK_A/AIN5 (io), 15 PC4/OCMP2_B/AIN4 (io), 16 PC3/ICAP2_B/AIN3 (io), 17 PC2/MCO/AIN2 (io), 18 PC1/OCMP1_B/AIN1 (io), 19 PC0/ICAP1_B/AIN0 (io), 20 PA7 (HS) (io), 21 PA6 (HS)/SDAI (io), 22 PA5 (HS) (io), 23 PA4 (HS)/SCLI (io), 24 NC, 25 NC, 26 PA3 (HS) (io), 27 PA2 (HS) (io), 28 PA1 (HS) (io), 29 PA0 (HS) (io), 30 ISPSEL (in), 31 VSS (power), 32 VDD (power)

## ST72216G1B3
designator U?
8-Bit 4k ROM MCU, 256b RAM, WDG, ADC, 16-Bit Timer, SPI Interface, 32-Pin PDIP, Automotive; PackageDocument: rev1.7, Oct-2001; Note: Pins 4-7, 14-23 and 26-29 are External Interrupt (EI) pins.; Published: 26-May-2004; DatasheetDocument: rev2.6, Nov-2000; PackageReference: PSDIP32; Publisher: Altium Limited
footprint PSDIP32 (DIP, Plastic Shrink; 32 Leads; Row Spacing 10.16 mm; Pitch 1.78 mm)
pins: 1 ~{RESET} (io), 2 OSC1 (in), 3 OSC2 (out), 4 PB7/~{SS} (io), 5 PB6/SCK/ISPCLK (io), 6 PB5/MISO/ISPDATA (io), 7 PB4/MOSI (io), 8 NC, 9 NC, 10 PB3/OCMP2_A (io), 11 PB2/ICAP2_A (io), 12 PB1/OCMP1_A (io), 13 PB0/ICAP1_A (io), 14 PC5/EXTCLK_A/AIN5 (io), 15 PC4/OCMP2_B/AIN4 (io), 16 PC3/ICAP2_B/AIN3 (io), 17 PC2/MCO/AIN2 (io), 18 PC1/OCMP1_B/AIN1 (io), 19 PC0/ICAP1_B/AIN0 (io), 20 PA7 (HS) (io), 21 PA6 (HS)/SDAI (io), 22 PA5 (HS) (io), 23 PA4 (HS)/SCLI (io), 24 NC, 25 NC, 26 PA3 (HS) (io), 27 PA2 (HS) (io), 28 PA1 (HS) (io), 29 PA0 (HS) (io), 30 ISPSEL (in), 31 VSS (power), 32 VDD (power)

## ST72216G1B6
designator U?
8-Bit 4k ROM MCU, 256b RAM, WDG, ADC, 16-Bit Timer, SPI Interface, 32-Pin PDIP, Industrial; PackageDocument: rev1.7, Oct-2001; Note: Pins 4-7, 14-23 and 26-29 are External Interrupt (EI) pins.; Published: 26-May-2004; DatasheetDocument: rev2.6, Nov-2000; PackageReference: PSDIP32; Publisher: Altium Limited
footprint PSDIP32 (DIP, Plastic Shrink; 32 Leads; Row Spacing 10.16 mm; Pitch 1.78 mm)
pins: 1 ~{RESET} (io), 2 OSC1 (in), 3 OSC2 (out), 4 PB7/~{SS} (io), 5 PB6/SCK/ISPCLK (io), 6 PB5/MISO/ISPDATA (io), 7 PB4/MOSI (io), 8 NC, 9 NC, 10 PB3/OCMP2_A (io), 11 PB2/ICAP2_A (io), 12 PB1/OCMP1_A (io), 13 PB0/ICAP1_A (io), 14 PC5/EXTCLK_A/AIN5 (io), 15 PC4/OCMP2_B/AIN4 (io), 16 PC3/ICAP2_B/AIN3 (io), 17 PC2/MCO/AIN2 (io), 18 PC1/OCMP1_B/AIN1 (io), 19 PC0/ICAP1_B/AIN0 (io), 20 PA7 (HS) (io), 21 PA6 (HS)/SDAI (io), 22 PA5 (HS) (io), 23 PA4 (HS)/SCLI (io), 24 NC, 25 NC, 26 PA3 (HS) (io), 27 PA2 (HS) (io), 28 PA1 (HS) (io), 29 PA0 (HS) (io), 30 ISPSEL (in), 31 VSS (power), 32 VDD (power)

## ST72216G1M1
designator U?
8-Bit 4k ROM MCU, 256b RAM, WDG, ADC, 16-Bit Timer, SPI Interface, 28-Pin SOIC, Standard; Note: Pins 4-25 are External Interrupt (EI) pins.; Published: 26-May-2004; DatasheetDocument: rev2.6, Nov-2000; PackageDocument: Jul-2001; PackageReference: SO28; Publisher: Altium Limited; Code_IPC: SO28W
footprint SO28 (Small Outline, Plastic; 28 Leads; Body Width 7.5 mm; Pitch 1.27 mm)
pins: 1 ~{RESET} (io), 2 OSC1 (in), 3 OSC2 (out), 4 PB7/~{SS} (io), 5 PB6/SCK/ISPCLK (io), 6 PB5/MISO/ISPDATA (io), 7 PB4/MOSI (io), 8 PB3/OCMP2_A (io), 9 PB2/ICAP2_A (io), 10 PB1/OCMP1_A (io), 11 PB0/ICAP1_A (io), 12 PC5/EXTCLK_A/AIN5 (io), 13 PC4/OCMP2_B/AIN4 (io), 14 PC3/ICAP2_B/AIN3 (io), 15 PC2/MCO/AIN2 (io), 16 PC1/OCMP1_B/AIN1 (io), 17 PC0/ICAP1_B/AIN0 (io), 18 PA7 (HS) (io), 19 PA6 (HS)/SDAI (io), 20 PA5 (HS) (io), 21 PA4 (HS)/SCLI (io), 22 PA3 (HS) (io), 23 PA2 (HS) (io), 24 PA1 (HS) (io), 25 PA0 (HS) (io), 26 ISPSEL (in), 27 VSS (power), 28 VDD (power)

## ST72216G1M3
designator U?
8-Bit 4k ROM MCU, 256b RAM, WDG, ADC, 16-Bit Timer, SPI Interface, 28-Pin SOIC, Automotive; Note: Pins 4-25 are External Interrupt (EI) pins.; Published: 26-May-2004; DatasheetDocument: rev2.6, Nov-2000; PackageDocument: Jul-2001; PackageReference: SO28; Publisher: Altium Limited; Code_IPC: SO28W
footprint SO28 (Small Outline, Plastic; 28 Leads; Body Width 7.5 mm; Pitch 1.27 mm)
pins: 1 ~{RESET} (io), 2 OSC1 (in), 3 OSC2 (out), 4 PB7/~{SS} (io), 5 PB6/SCK/ISPCLK (io), 6 PB5/MISO/ISPDATA (io), 7 PB4/MOSI (io), 8 PB3/OCMP2_A (io), 9 PB2/ICAP2_A (io), 10 PB1/OCMP1_A (io), 11 PB0/ICAP1_A (io), 12 PC5/EXTCLK_A/AIN5 (io), 13 PC4/OCMP2_B/AIN4 (io), 14 PC3/ICAP2_B/AIN3 (io), 15 PC2/MCO/AIN2 (io), 16 PC1/OCMP1_B/AIN1 (io), 17 PC0/ICAP1_B/AIN0 (io), 18 PA7 (HS) (io), 19 PA6 (HS)/SDAI (io), 20 PA5 (HS) (io), 21 PA4 (HS)/SCLI (io), 22 PA3 (HS) (io), 23 PA2 (HS) (io), 24 PA1 (HS) (io), 25 PA0 (HS) (io), 26 ISPSEL (in), 27 VSS (power), 28 VDD (power)

## ST72216G1M6
designator U?
8-Bit 4k ROM MCU, 256b RAM, WDG, ADC, 16-Bit Timer, SPI Interface, 28-Pin SOIC, Industrial; Note: Pins 4-25 are External Interrupt (EI) pins.; Published: 26-May-2004; DatasheetDocument: rev2.6, Nov-2000; PackageDocument: Jul-2001; PackageReference: SO28; Publisher: Altium Limited; Code_IPC: SO28W
footprint SO28 (Small Outline, Plastic; 28 Leads; Body Width 7.5 mm; Pitch 1.27 mm)
pins: 1 ~{RESET} (io), 2 OSC1 (in), 3 OSC2 (out), 4 PB7/~{SS} (io), 5 PB6/SCK/ISPCLK (io), 6 PB5/MISO/ISPDATA (io), 7 PB4/MOSI (io), 8 PB3/OCMP2_A (io), 9 PB2/ICAP2_A (io), 10 PB1/OCMP1_A (io), 11 PB0/ICAP1_A (io), 12 PC5/EXTCLK_A/AIN5 (io), 13 PC4/OCMP2_B/AIN4 (io), 14 PC3/ICAP2_B/AIN3 (io), 15 PC2/MCO/AIN2 (io), 16 PC1/OCMP1_B/AIN1 (io), 17 PC0/ICAP1_B/AIN0 (io), 18 PA7 (HS) (io), 19 PA6 (HS)/SDAI (io), 20 PA5 (HS) (io), 21 PA4 (HS)/SCLI (io), 22 PA3 (HS) (io), 23 PA2 (HS) (io), 24 PA1 (HS) (io), 25 PA0 (HS) (io), 26 ISPSEL (in), 27 VSS (power), 28 VDD (power)

## ST72251G1B1
designator U?
8-Bit MCU with 4k ROM, 256b RAM, ADC, WDG, SPI, I²C and Two Timers, 32-Pin PDIP, Standard; PackageDocument: rev1.7, Oct-2001; Published: 26-May-2004; DatasheetDocument: rev1.9, Jun-2001; PackageReference: PSDIP32; Publisher: Altium Limited
footprint PSDIP32 (DIP, Plastic Shrink; 32 Leads; Row Spacing 10.16 mm; Pitch 1.78 mm)
pins: 1 ~{RESET} (io), 2 OSCIN (in), 3 OSCOUT (out), 4 PB7/~{SS} (io), 5 PB6/SCK (io), 6 PB5/MISO (io), 7 PB4/MOSI (io), 8 NC, 9 NC, 10 PB3/OCMP2_A (io), 11 PB2/ICAP2_A (io), 12 PB1/OCMP1_A (io), 13 PB0/ICAP1_A (io), 14 PC5/EXTCLK_A/AIN5 (io), 15 PC4/OCMP2_B/AIN4 (io), 16 PC3/ICAP2_B/AIN3 (io), 17 PC2/CLKOUT/AIN2 (io), 18 PC1/OCMP1_B/AIN1 (io), 19 PC0/ICAP1_B/AIN0 (io), 20 PA7 (io), 21 PA6/SDA (io), 22 PA5 (io), 23 PA4/SCL (io), 24 NC, 25 NC, 26 PA3 (io), 27 PA2 (io), 28 PA1 (io), 29 PA0 (io), 30 TEST (in), 31 VSS (power), 32 VDD (power)

## ST72251G1B3
designator U?
8-Bit MCU with 4k ROM, 256b RAM, ADC, WDG, SPI, I²C and Two Timers, 32-Pin PDIP, Automotive; PackageDocument: rev1.7, Oct-2001; Published: 26-May-2004; DatasheetDocument: rev1.9, Jun-2001; PackageReference: PSDIP32; Publisher: Altium Limited
footprint PSDIP32 (DIP, Plastic Shrink; 32 Leads; Row Spacing 10.16 mm; Pitch 1.78 mm)
pins: 1 ~{RESET} (io), 2 OSCIN (in), 3 OSCOUT (out), 4 PB7/~{SS} (io), 5 PB6/SCK (io), 6 PB5/MISO (io), 7 PB4/MOSI (io), 8 NC, 9 NC, 10 PB3/OCMP2_A (io), 11 PB2/ICAP2_A (io), 12 PB1/OCMP1_A (io), 13 PB0/ICAP1_A (io), 14 PC5/EXTCLK_A/AIN5 (io), 15 PC4/OCMP2_B/AIN4 (io), 16 PC3/ICAP2_B/AIN3 (io), 17 PC2/CLKOUT/AIN2 (io), 18 PC1/OCMP1_B/AIN1 (io), 19 PC0/ICAP1_B/AIN0 (io), 20 PA7 (io), 21 PA6/SDA (io), 22 PA5 (io), 23 PA4/SCL (io), 24 NC, 25 NC, 26 PA3 (io), 27 PA2 (io), 28 PA1 (io), 29 PA0 (io), 30 TEST (in), 31 VSS (power), 32 VDD (power)

## ST72251G1B6
designator U?
8-Bit MCU with 4k ROM, 256b RAM, ADC, WDG, SPI, I²C and Two Timers, 32-Pin PDIP, Industrial; PackageDocument: rev1.7, Oct-2001; Published: 26-May-2004; DatasheetDocument: rev1.9, Jun-2001; PackageReference: PSDIP32; Publisher: Altium Limited
footprint PSDIP32 (DIP, Plastic Shrink; 32 Leads; Row Spacing 10.16 mm; Pitch 1.78 mm)
pins: 1 ~{RESET} (io), 2 OSCIN (in), 3 OSCOUT (out), 4 PB7/~{SS} (io), 5 PB6/SCK (io), 6 PB5/MISO (io), 7 PB4/MOSI (io), 8 NC, 9 NC, 10 PB3/OCMP2_A (io), 11 PB2/ICAP2_A (io), 12 PB1/OCMP1_A (io), 13 PB0/ICAP1_A (io), 14 PC5/EXTCLK_A/AIN5 (io), 15 PC4/OCMP2_B/AIN4 (io), 16 PC3/ICAP2_B/AIN3 (io), 17 PC2/CLKOUT/AIN2 (io), 18 PC1/OCMP1_B/AIN1 (io), 19 PC0/ICAP1_B/AIN0 (io), 20 PA7 (io), 21 PA6/SDA (io), 22 PA5 (io), 23 PA4/SCL (io), 24 NC, 25 NC, 26 PA3 (io), 27 PA2 (io), 28 PA1 (io), 29 PA0 (io), 30 TEST (in), 31 VSS (power), 32 VDD (power)

## ST72251G1M1
designator U?
8-Bit MCU with 4k ROM, 256b RAM, ADC, WDG, SPI, I²C and Two Timers, 28-Pin SOIC, Standard; Published: 26-May-2004; DatasheetDocument: rev1.9, Jun-2001; PackageDocument: Jul-2001; PackageReference: SO28; Publisher: Altium Limited; Code_IPC: SO28W
footprint SO28 (Small Outline, Plastic; 28 Leads; Body Width 7.5 mm; Pitch 1.27 mm)
pins: 1 ~{RESET} (io), 2 OSCIN (in), 3 OSCOUT (out), 4 PB7/~{SS} (io), 5 PB6/SCK (io), 6 PB5/MISO (io), 7 PB4/MOSI (io), 8 PB3/OCMP2_A (io), 9 PB2/ICAP2_A (io), 10 PB1/OCMP1_A (io), 11 PB0/ICAP1_A (io), 12 PC5/EXTCLK_A/AIN5 (io), 13 PC4/OCMP2_B/AIN4 (io), 14 PC3/ICAP2_B/AIN3 (io), 15 PC2/CLKOUT/AIN2 (io), 16 PC1/OCMP1_B/AIN1 (io), 17 PC0/ICAP1_B/AIN0 (io), 18 PA7 (io), 19 PA6/SDA (io), 20 PA5 (io), 21 PA4/SCL (io), 22 PA3 (io), 23 PA2 (io), 24 PA1 (io), 25 PA0 (io), 26 TEST (in), 27 VSS (power), 28 VDD (power)

## ST72251G1M3
designator U?
8-Bit MCU with 4k ROM, 256b RAM, ADC, WDG, SPI, I²C and Two Timers, 28-Pin SOIC, Automotive; Published: 26-May-2004; DatasheetDocument: rev1.9, Jun-2001; PackageDocument: Jul-2001; PackageReference: SO28; Publisher: Altium Limited; Code_IPC: SO28W
footprint SO28 (Small Outline, Plastic; 28 Leads; Body Width 7.5 mm; Pitch 1.27 mm)
pins: 1 ~{RESET} (io), 2 OSCIN (in), 3 OSCOUT (out), 4 PB7/~{SS} (io), 5 PB6/SCK (io), 6 PB5/MISO (io), 7 PB4/MOSI (io), 8 PB3/OCMP2_A (io), 9 PB2/ICAP2_A (io), 10 PB1/OCMP1_A (io), 11 PB0/ICAP1_A (io), 12 PC5/EXTCLK_A/AIN5 (io), 13 PC4/OCMP2_B/AIN4 (io), 14 PC3/ICAP2_B/AIN3 (io), 15 PC2/CLKOUT/AIN2 (io), 16 PC1/OCMP1_B/AIN1 (io), 17 PC0/ICAP1_B/AIN0 (io), 18 PA7 (io), 19 PA6/SDA (io), 20 PA5 (io), 21 PA4/SCL (io), 22 PA3 (io), 23 PA2 (io), 24 PA1 (io), 25 PA0 (io), 26 TEST (in), 27 VSS (power), 28 VDD (power)

## ST72251G1M6
designator U?
8-Bit MCU with 4k ROM, 256b RAM, ADC, WDG, SPI, I²C and Two Timers, 28-Pin SOIC, Industrial; Published: 26-May-2004; DatasheetDocument: rev1.9, Jun-2001; PackageDocument: Jul-2001; PackageReference: SO28; Publisher: Altium Limited; Code_IPC: SO28W
footprint SO28 (Small Outline, Plastic; 28 Leads; Body Width 7.5 mm; Pitch 1.27 mm)
pins: 1 ~{RESET} (io), 2 OSCIN (in), 3 OSCOUT (out), 4 PB7/~{SS} (io), 5 PB6/SCK (io), 6 PB5/MISO (io), 7 PB4/MOSI (io), 8 PB3/OCMP2_A (io), 9 PB2/ICAP2_A (io), 10 PB1/OCMP1_A (io), 11 PB0/ICAP1_A (io), 12 PC5/EXTCLK_A/AIN5 (io), 13 PC4/OCMP2_B/AIN4 (io), 14 PC3/ICAP2_B/AIN3 (io), 15 PC2/CLKOUT/AIN2 (io), 16 PC1/OCMP1_B/AIN1 (io), 17 PC0/ICAP1_B/AIN0 (io), 18 PA7 (io), 19 PA6/SDA (io), 20 PA5 (io), 21 PA4/SCL (io), 22 PA3 (io), 23 PA2 (io), 24 PA1 (io), 25 PA0 (io), 26 TEST (in), 27 VSS (power), 28 VDD (power)

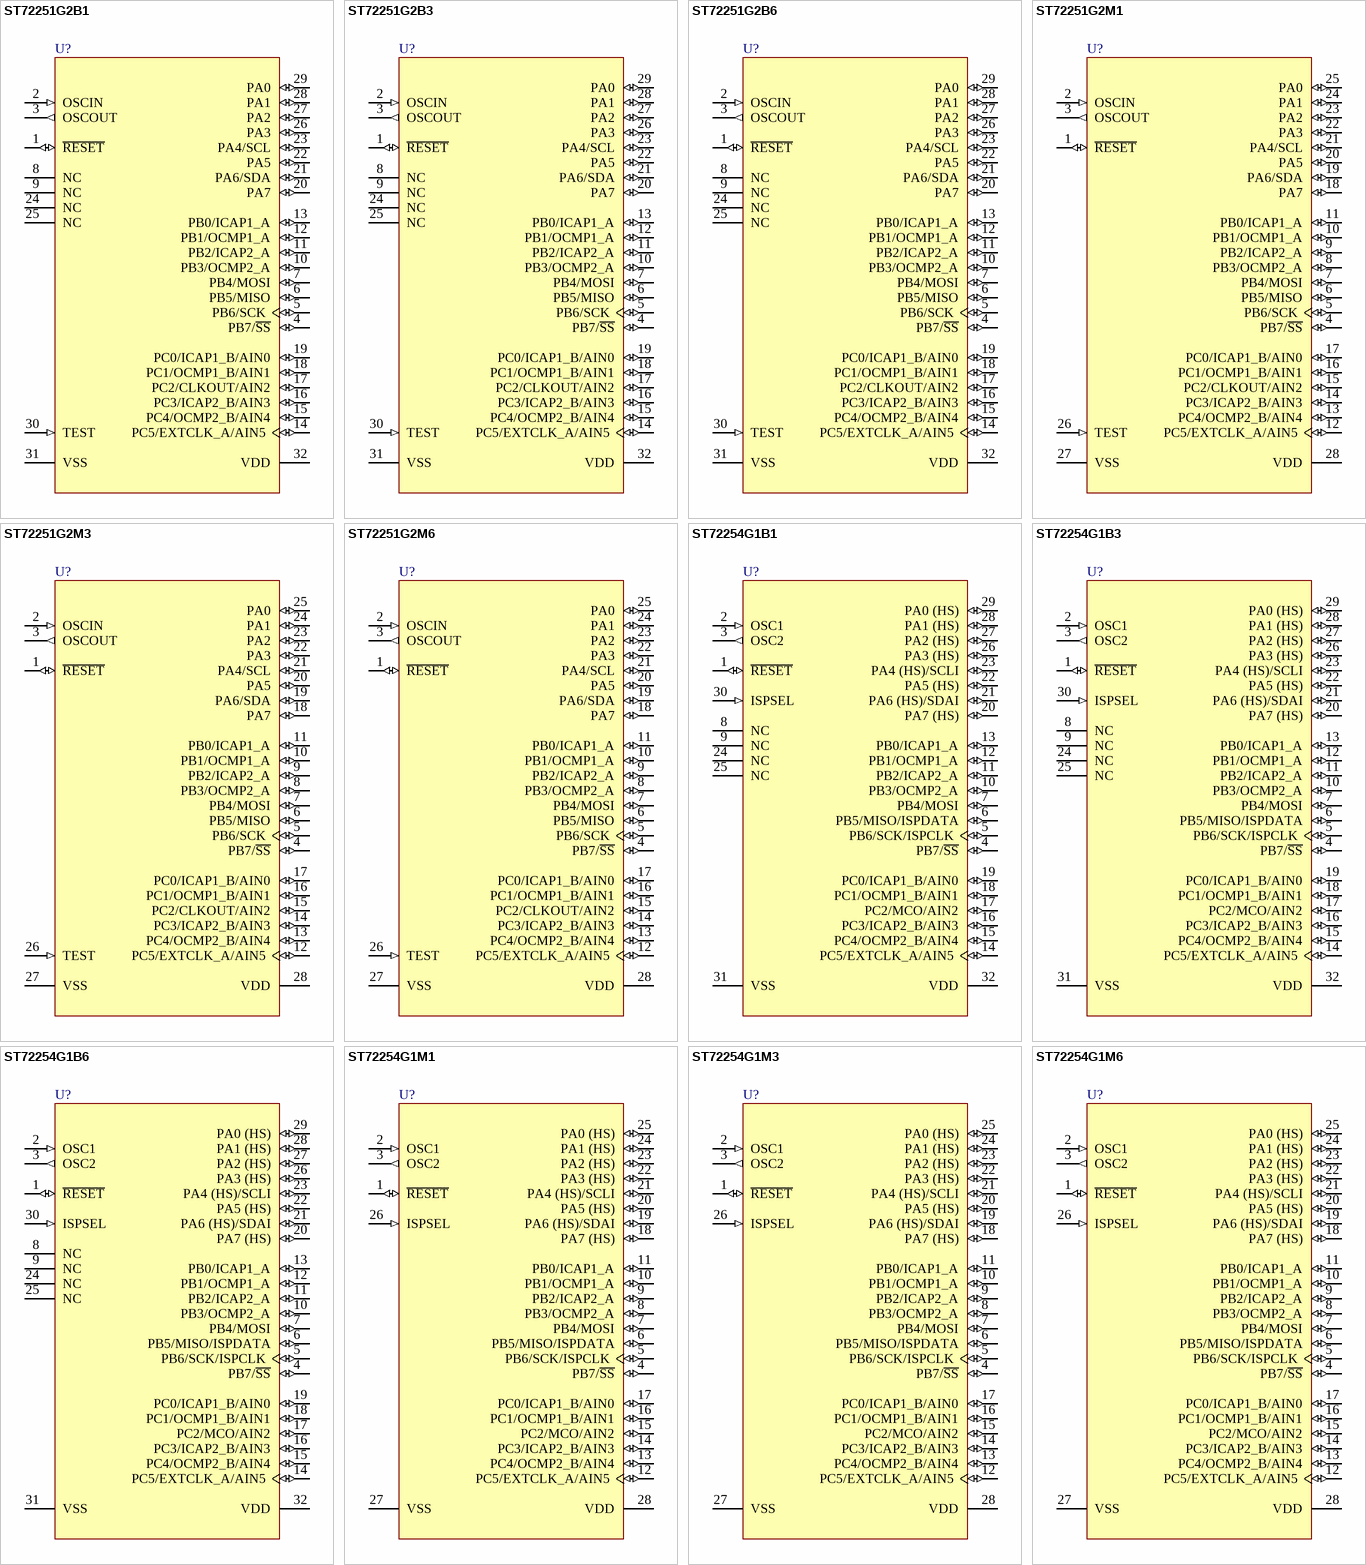
[diagram p101: symbols ST72251G2B1 to ST72254G1M6]

## ST72251G2B1
designator U?
8-Bit MCU with 8k ROM, 256b RAM, ADC, WDG, SPI, I²C and Two Timers, 32-Pin PDIP, Standard; PackageDocument: rev1.7, Oct-2001; Published: 26-May-2004; DatasheetDocument: rev1.9, Jun-2001; PackageReference: PSDIP32; Publisher: Altium Limited
footprint PSDIP32 (DIP, Plastic Shrink; 32 Leads; Row Spacing 10.16 mm; Pitch 1.78 mm)
pins: 1 ~{RESET} (io), 2 OSCIN (in), 3 OSCOUT (out), 4 PB7/~{SS} (io), 5 PB6/SCK (io), 6 PB5/MISO (io), 7 PB4/MOSI (io), 8 NC, 9 NC, 10 PB3/OCMP2_A (io), 11 PB2/ICAP2_A (io), 12 PB1/OCMP1_A (io), 13 PB0/ICAP1_A (io), 14 PC5/EXTCLK_A/AIN5 (io), 15 PC4/OCMP2_B/AIN4 (io), 16 PC3/ICAP2_B/AIN3 (io), 17 PC2/CLKOUT/AIN2 (io), 18 PC1/OCMP1_B/AIN1 (io), 19 PC0/ICAP1_B/AIN0 (io), 20 PA7 (io), 21 PA6/SDA (io), 22 PA5 (io), 23 PA4/SCL (io), 24 NC, 25 NC, 26 PA3 (io), 27 PA2 (io), 28 PA1 (io), 29 PA0 (io), 30 TEST (in), 31 VSS (power), 32 VDD (power)

## ST72251G2B3
designator U?
8-Bit MCU with 8k ROM, 256b RAM, ADC, WDG, SPI, I²C and Two Timers, 32-Pin PDIP, Automotive; PackageDocument: rev1.7, Oct-2001; Published: 26-May-2004; DatasheetDocument: rev1.9, Jun-2001; PackageReference: PSDIP32; Publisher: Altium Limited
footprint PSDIP32 (DIP, Plastic Shrink; 32 Leads; Row Spacing 10.16 mm; Pitch 1.78 mm)
pins: 1 ~{RESET} (io), 2 OSCIN (in), 3 OSCOUT (out), 4 PB7/~{SS} (io), 5 PB6/SCK (io), 6 PB5/MISO (io), 7 PB4/MOSI (io), 8 NC, 9 NC, 10 PB3/OCMP2_A (io), 11 PB2/ICAP2_A (io), 12 PB1/OCMP1_A (io), 13 PB0/ICAP1_A (io), 14 PC5/EXTCLK_A/AIN5 (io), 15 PC4/OCMP2_B/AIN4 (io), 16 PC3/ICAP2_B/AIN3 (io), 17 PC2/CLKOUT/AIN2 (io), 18 PC1/OCMP1_B/AIN1 (io), 19 PC0/ICAP1_B/AIN0 (io), 20 PA7 (io), 21 PA6/SDA (io), 22 PA5 (io), 23 PA4/SCL (io), 24 NC, 25 NC, 26 PA3 (io), 27 PA2 (io), 28 PA1 (io), 29 PA0 (io), 30 TEST (in), 31 VSS (power), 32 VDD (power)

## ST72251G2B6
designator U?
8-Bit MCU with 8k ROM, 256b RAM, ADC, WDG, SPI, I²C and Two Timers, 32-Pin PDIP, Industrial; PackageDocument: rev1.7, Oct-2001; Published: 26-May-2004; DatasheetDocument: rev1.9, Jun-2001; PackageReference: PSDIP32; Publisher: Altium Limited
footprint PSDIP32 (DIP, Plastic Shrink; 32 Leads; Row Spacing 10.16 mm; Pitch 1.78 mm)
pins: 1 ~{RESET} (io), 2 OSCIN (in), 3 OSCOUT (out), 4 PB7/~{SS} (io), 5 PB6/SCK (io), 6 PB5/MISO (io), 7 PB4/MOSI (io), 8 NC, 9 NC, 10 PB3/OCMP2_A (io), 11 PB2/ICAP2_A (io), 12 PB1/OCMP1_A (io), 13 PB0/ICAP1_A (io), 14 PC5/EXTCLK_A/AIN5 (io), 15 PC4/OCMP2_B/AIN4 (io), 16 PC3/ICAP2_B/AIN3 (io), 17 PC2/CLKOUT/AIN2 (io), 18 PC1/OCMP1_B/AIN1 (io), 19 PC0/ICAP1_B/AIN0 (io), 20 PA7 (io), 21 PA6/SDA (io), 22 PA5 (io), 23 PA4/SCL (io), 24 NC, 25 NC, 26 PA3 (io), 27 PA2 (io), 28 PA1 (io), 29 PA0 (io), 30 TEST (in), 31 VSS (power), 32 VDD (power)

## ST72251G2M1
designator U?
8-Bit MCU with 8k ROM, 256b RAM, ADC, WDG, SPI, I²C and Two Timers, 28-Pin SOIC, Standard; Published: 26-May-2004; DatasheetDocument: rev1.9, Jun-2001; PackageDocument: Jul-2001; PackageReference: SO28; Publisher: Altium Limited; Code_IPC: SO28W
footprint SO28 (Small Outline, Plastic; 28 Leads; Body Width 7.5 mm; Pitch 1.27 mm)
pins: 1 ~{RESET} (io), 2 OSCIN (in), 3 OSCOUT (out), 4 PB7/~{SS} (io), 5 PB6/SCK (io), 6 PB5/MISO (io), 7 PB4/MOSI (io), 8 PB3/OCMP2_A (io), 9 PB2/ICAP2_A (io), 10 PB1/OCMP1_A (io), 11 PB0/ICAP1_A (io), 12 PC5/EXTCLK_A/AIN5 (io), 13 PC4/OCMP2_B/AIN4 (io), 14 PC3/ICAP2_B/AIN3 (io), 15 PC2/CLKOUT/AIN2 (io), 16 PC1/OCMP1_B/AIN1 (io), 17 PC0/ICAP1_B/AIN0 (io), 18 PA7 (io), 19 PA6/SDA (io), 20 PA5 (io), 21 PA4/SCL (io), 22 PA3 (io), 23 PA2 (io), 24 PA1 (io), 25 PA0 (io), 26 TEST (in), 27 VSS (power), 28 VDD (power)

## ST72251G2M3
designator U?
8-Bit MCU with 8k ROM, 256b RAM, ADC, WDG, SPI, I²C and Two Timers, 28-Pin SOIC, Automotive; Published: 26-May-2004; DatasheetDocument: rev1.9, Jun-2001; PackageDocument: Jul-2001; PackageReference: SO28; Publisher: Altium Limited; Code_IPC: SO28W
footprint SO28 (Small Outline, Plastic; 28 Leads; Body Width 7.5 mm; Pitch 1.27 mm)
pins: 1 ~{RESET} (io), 2 OSCIN (in), 3 OSCOUT (out), 4 PB7/~{SS} (io), 5 PB6/SCK (io), 6 PB5/MISO (io), 7 PB4/MOSI (io), 8 PB3/OCMP2_A (io), 9 PB2/ICAP2_A (io), 10 PB1/OCMP1_A (io), 11 PB0/ICAP1_A (io), 12 PC5/EXTCLK_A/AIN5 (io), 13 PC4/OCMP2_B/AIN4 (io), 14 PC3/ICAP2_B/AIN3 (io), 15 PC2/CLKOUT/AIN2 (io), 16 PC1/OCMP1_B/AIN1 (io), 17 PC0/ICAP1_B/AIN0 (io), 18 PA7 (io), 19 PA6/SDA (io), 20 PA5 (io), 21 PA4/SCL (io), 22 PA3 (io), 23 PA2 (io), 24 PA1 (io), 25 PA0 (io), 26 TEST (in), 27 VSS (power), 28 VDD (power)

## ST72251G2M6
designator U?
8-Bit MCU with 8k ROM, 256b RAM, ADC, WDG, SPI, I²C and Two Timers, 28-Pin SOIC, Industrial; Published: 26-May-2004; DatasheetDocument: rev1.9, Jun-2001; PackageDocument: Jul-2001; PackageReference: SO28; Publisher: Altium Limited; Code_IPC: SO28W
footprint SO28 (Small Outline, Plastic; 28 Leads; Body Width 7.5 mm; Pitch 1.27 mm)
pins: 1 ~{RESET} (io), 2 OSCIN (in), 3 OSCOUT (out), 4 PB7/~{SS} (io), 5 PB6/SCK (io), 6 PB5/MISO (io), 7 PB4/MOSI (io), 8 PB3/OCMP2_A (io), 9 PB2/ICAP2_A (io), 10 PB1/OCMP1_A (io), 11 PB0/ICAP1_A (io), 12 PC5/EXTCLK_A/AIN5 (io), 13 PC4/OCMP2_B/AIN4 (io), 14 PC3/ICAP2_B/AIN3 (io), 15 PC2/CLKOUT/AIN2 (io), 16 PC1/OCMP1_B/AIN1 (io), 17 PC0/ICAP1_B/AIN0 (io), 18 PA7 (io), 19 PA6/SDA (io), 20 PA5 (io), 21 PA4/SCL (io), 22 PA3 (io), 23 PA2 (io), 24 PA1 (io), 25 PA0 (io), 26 TEST (in), 27 VSS (power), 28 VDD (power)

## ST72254G1B1
designator U?
8-Bit 4k ROM MCU, 256b RAM, WDG, ADC, 16-Bit Timers, SPI and I²C Interface, 32-Pin PDIP, Standard; PackageDocument: rev1.7, Oct-2001; Note: Pins 4-7, 14-23 and 26-29 are External Interrupt (EI) pins.; Published: 26-May-2004; DatasheetDocument: rev2.6, Nov-2000; PackageReference: PSDIP32; Publisher: Altium Limited
footprint PSDIP32 (DIP, Plastic Shrink; 32 Leads; Row Spacing 10.16 mm; Pitch 1.78 mm)
pins: 1 ~{RESET} (io), 2 OSC1 (in), 3 OSC2 (out), 4 PB7/~{SS} (io), 5 PB6/SCK/ISPCLK (io), 6 PB5/MISO/ISPDATA (io), 7 PB4/MOSI (io), 8 NC, 9 NC, 10 PB3/OCMP2_A (io), 11 PB2/ICAP2_A (io), 12 PB1/OCMP1_A (io), 13 PB0/ICAP1_A (io), 14 PC5/EXTCLK_A/AIN5 (io), 15 PC4/OCMP2_B/AIN4 (io), 16 PC3/ICAP2_B/AIN3 (io), 17 PC2/MCO/AIN2 (io), 18 PC1/OCMP1_B/AIN1 (io), 19 PC0/ICAP1_B/AIN0 (io), 20 PA7 (HS) (io), 21 PA6 (HS)/SDAI (io), 22 PA5 (HS) (io), 23 PA4 (HS)/SCLI (io), 24 NC, 25 NC, 26 PA3 (HS) (io), 27 PA2 (HS) (io), 28 PA1 (HS) (io), 29 PA0 (HS) (io), 30 ISPSEL (in), 31 VSS (power), 32 VDD (power)

## ST72254G1B3
designator U?
8-Bit 4k ROM MCU, 256b RAM, WDG, ADC, 16-Bit Timers, SPI and I²C Interface, 32-Pin PDIP, Automotive; PackageDocument: rev1.7, Oct-2001; Note: Pins 4-7, 14-23 and 26-29 are External Interrupt (EI) pins.; Published: 26-May-2004; DatasheetDocument: rev2.6, Nov-2000; PackageReference: PSDIP32; Publisher: Altium Limited
footprint PSDIP32 (DIP, Plastic Shrink; 32 Leads; Row Spacing 10.16 mm; Pitch 1.78 mm)
pins: 1 ~{RESET} (io), 2 OSC1 (in), 3 OSC2 (out), 4 PB7/~{SS} (io), 5 PB6/SCK/ISPCLK (io), 6 PB5/MISO/ISPDATA (io), 7 PB4/MOSI (io), 8 NC, 9 NC, 10 PB3/OCMP2_A (io), 11 PB2/ICAP2_A (io), 12 PB1/OCMP1_A (io), 13 PB0/ICAP1_A (io), 14 PC5/EXTCLK_A/AIN5 (io), 15 PC4/OCMP2_B/AIN4 (io), 16 PC3/ICAP2_B/AIN3 (io), 17 PC2/MCO/AIN2 (io), 18 PC1/OCMP1_B/AIN1 (io), 19 PC0/ICAP1_B/AIN0 (io), 20 PA7 (HS) (io), 21 PA6 (HS)/SDAI (io), 22 PA5 (HS) (io), 23 PA4 (HS)/SCLI (io), 24 NC, 25 NC, 26 PA3 (HS) (io), 27 PA2 (HS) (io), 28 PA1 (HS) (io), 29 PA0 (HS) (io), 30 ISPSEL (in), 31 VSS (power), 32 VDD (power)

## ST72254G1B6
designator U?
8-Bit 4k ROM MCU, 256b RAM, WDG, ADC, 16-Bit Timers, SPI and I²C Interface, 32-Pin PDIP, Industrial; PackageDocument: rev1.7, Oct-2001; Note: Pins 4-7, 14-23 and 26-29 are External Interrupt (EI) pins.; Published: 26-May-2004; DatasheetDocument: rev2.6, Nov-2000; PackageReference: PSDIP32; Publisher: Altium Limited
footprint PSDIP32 (DIP, Plastic Shrink; 32 Leads; Row Spacing 10.16 mm; Pitch 1.78 mm)
pins: 1 ~{RESET} (io), 2 OSC1 (in), 3 OSC2 (out), 4 PB7/~{SS} (io), 5 PB6/SCK/ISPCLK (io), 6 PB5/MISO/ISPDATA (io), 7 PB4/MOSI (io), 8 NC, 9 NC, 10 PB3/OCMP2_A (io), 11 PB2/ICAP2_A (io), 12 PB1/OCMP1_A (io), 13 PB0/ICAP1_A (io), 14 PC5/EXTCLK_A/AIN5 (io), 15 PC4/OCMP2_B/AIN4 (io), 16 PC3/ICAP2_B/AIN3 (io), 17 PC2/MCO/AIN2 (io), 18 PC1/OCMP1_B/AIN1 (io), 19 PC0/ICAP1_B/AIN0 (io), 20 PA7 (HS) (io), 21 PA6 (HS)/SDAI (io), 22 PA5 (HS) (io), 23 PA4 (HS)/SCLI (io), 24 NC, 25 NC, 26 PA3 (HS) (io), 27 PA2 (HS) (io), 28 PA1 (HS) (io), 29 PA0 (HS) (io), 30 ISPSEL (in), 31 VSS (power), 32 VDD (power)

## ST72254G1M1
designator U?
8-Bit 4k ROM MCU, 256b RAM, WDG, ADC, 16-Bit Timers, SPI and I²C Interface, 28-Pin SOIC, Standard; Note: Pins 4-25 are External Interrupt (EI) pins.; Published: 26-May-2004; DatasheetDocument: rev2.6, Nov-2000; PackageDocument: Jul-2001; PackageReference: SO28; Publisher: Altium Limited; Code_IPC: SO28W
footprint SO28 (Small Outline, Plastic; 28 Leads; Body Width 7.5 mm; Pitch 1.27 mm)
pins: 1 ~{RESET} (io), 2 OSC1 (in), 3 OSC2 (out), 4 PB7/~{SS} (io), 5 PB6/SCK/ISPCLK (io), 6 PB5/MISO/ISPDATA (io), 7 PB4/MOSI (io), 8 PB3/OCMP2_A (io), 9 PB2/ICAP2_A (io), 10 PB1/OCMP1_A (io), 11 PB0/ICAP1_A (io), 12 PC5/EXTCLK_A/AIN5 (io), 13 PC4/OCMP2_B/AIN4 (io), 14 PC3/ICAP2_B/AIN3 (io), 15 PC2/MCO/AIN2 (io), 16 PC1/OCMP1_B/AIN1 (io), 17 PC0/ICAP1_B/AIN0 (io), 18 PA7 (HS) (io), 19 PA6 (HS)/SDAI (io), 20 PA5 (HS) (io), 21 PA4 (HS)/SCLI (io), 22 PA3 (HS) (io), 23 PA2 (HS) (io), 24 PA1 (HS) (io), 25 PA0 (HS) (io), 26 ISPSEL (in), 27 VSS (power), 28 VDD (power)

## ST72254G1M3
designator U?
8-Bit 4k ROM MCU, 256b RAM, WDG, ADC, 16-Bit Timers, SPI and I²C Interface, 28-Pin SOIC, Automotive; Note: Pins 4-25 are External Interrupt (EI) pins.; Published: 26-May-2004; DatasheetDocument: rev2.6, Nov-2000; PackageDocument: Jul-2001; PackageReference: SO28; Publisher: Altium Limited; Code_IPC: SO28W
footprint SO28 (Small Outline, Plastic; 28 Leads; Body Width 7.5 mm; Pitch 1.27 mm)
pins: 1 ~{RESET} (io), 2 OSC1 (in), 3 OSC2 (out), 4 PB7/~{SS} (io), 5 PB6/SCK/ISPCLK (io), 6 PB5/MISO/ISPDATA (io), 7 PB4/MOSI (io), 8 PB3/OCMP2_A (io), 9 PB2/ICAP2_A (io), 10 PB1/OCMP1_A (io), 11 PB0/ICAP1_A (io), 12 PC5/EXTCLK_A/AIN5 (io), 13 PC4/OCMP2_B/AIN4 (io), 14 PC3/ICAP2_B/AIN3 (io), 15 PC2/MCO/AIN2 (io), 16 PC1/OCMP1_B/AIN1 (io), 17 PC0/ICAP1_B/AIN0 (io), 18 PA7 (HS) (io), 19 PA6 (HS)/SDAI (io), 20 PA5 (HS) (io), 21 PA4 (HS)/SCLI (io), 22 PA3 (HS) (io), 23 PA2 (HS) (io), 24 PA1 (HS) (io), 25 PA0 (HS) (io), 26 ISPSEL (in), 27 VSS (power), 28 VDD (power)

## ST72254G1M6
designator U?
8-Bit 4k ROM MCU, 256b RAM, WDG, ADC, 16-Bit Timers, SPI and I²C Interface, 28-Pin SOIC, Industrial; Note: Pins 4-25 are External Interrupt (EI) pins.; Published: 26-May-2004; DatasheetDocument: rev2.6, Nov-2000; PackageDocument: Jul-2001; PackageReference: SO28; Publisher: Altium Limited; Code_IPC: SO28W
footprint SO28 (Small Outline, Plastic; 28 Leads; Body Width 7.5 mm; Pitch 1.27 mm)
pins: 1 ~{RESET} (io), 2 OSC1 (in), 3 OSC2 (out), 4 PB7/~{SS} (io), 5 PB6/SCK/ISPCLK (io), 6 PB5/MISO/ISPDATA (io), 7 PB4/MOSI (io), 8 PB3/OCMP2_A (io), 9 PB2/ICAP2_A (io), 10 PB1/OCMP1_A (io), 11 PB0/ICAP1_A (io), 12 PC5/EXTCLK_A/AIN5 (io), 13 PC4/OCMP2_B/AIN4 (io), 14 PC3/ICAP2_B/AIN3 (io), 15 PC2/MCO/AIN2 (io), 16 PC1/OCMP1_B/AIN1 (io), 17 PC0/ICAP1_B/AIN0 (io), 18 PA7 (HS) (io), 19 PA6 (HS)/SDAI (io), 20 PA5 (HS) (io), 21 PA4 (HS)/SCLI (io), 22 PA3 (HS) (io), 23 PA2 (HS) (io), 24 PA1 (HS) (io), 25 PA0 (HS) (io), 26 ISPSEL (in), 27 VSS (power), 28 VDD (power)

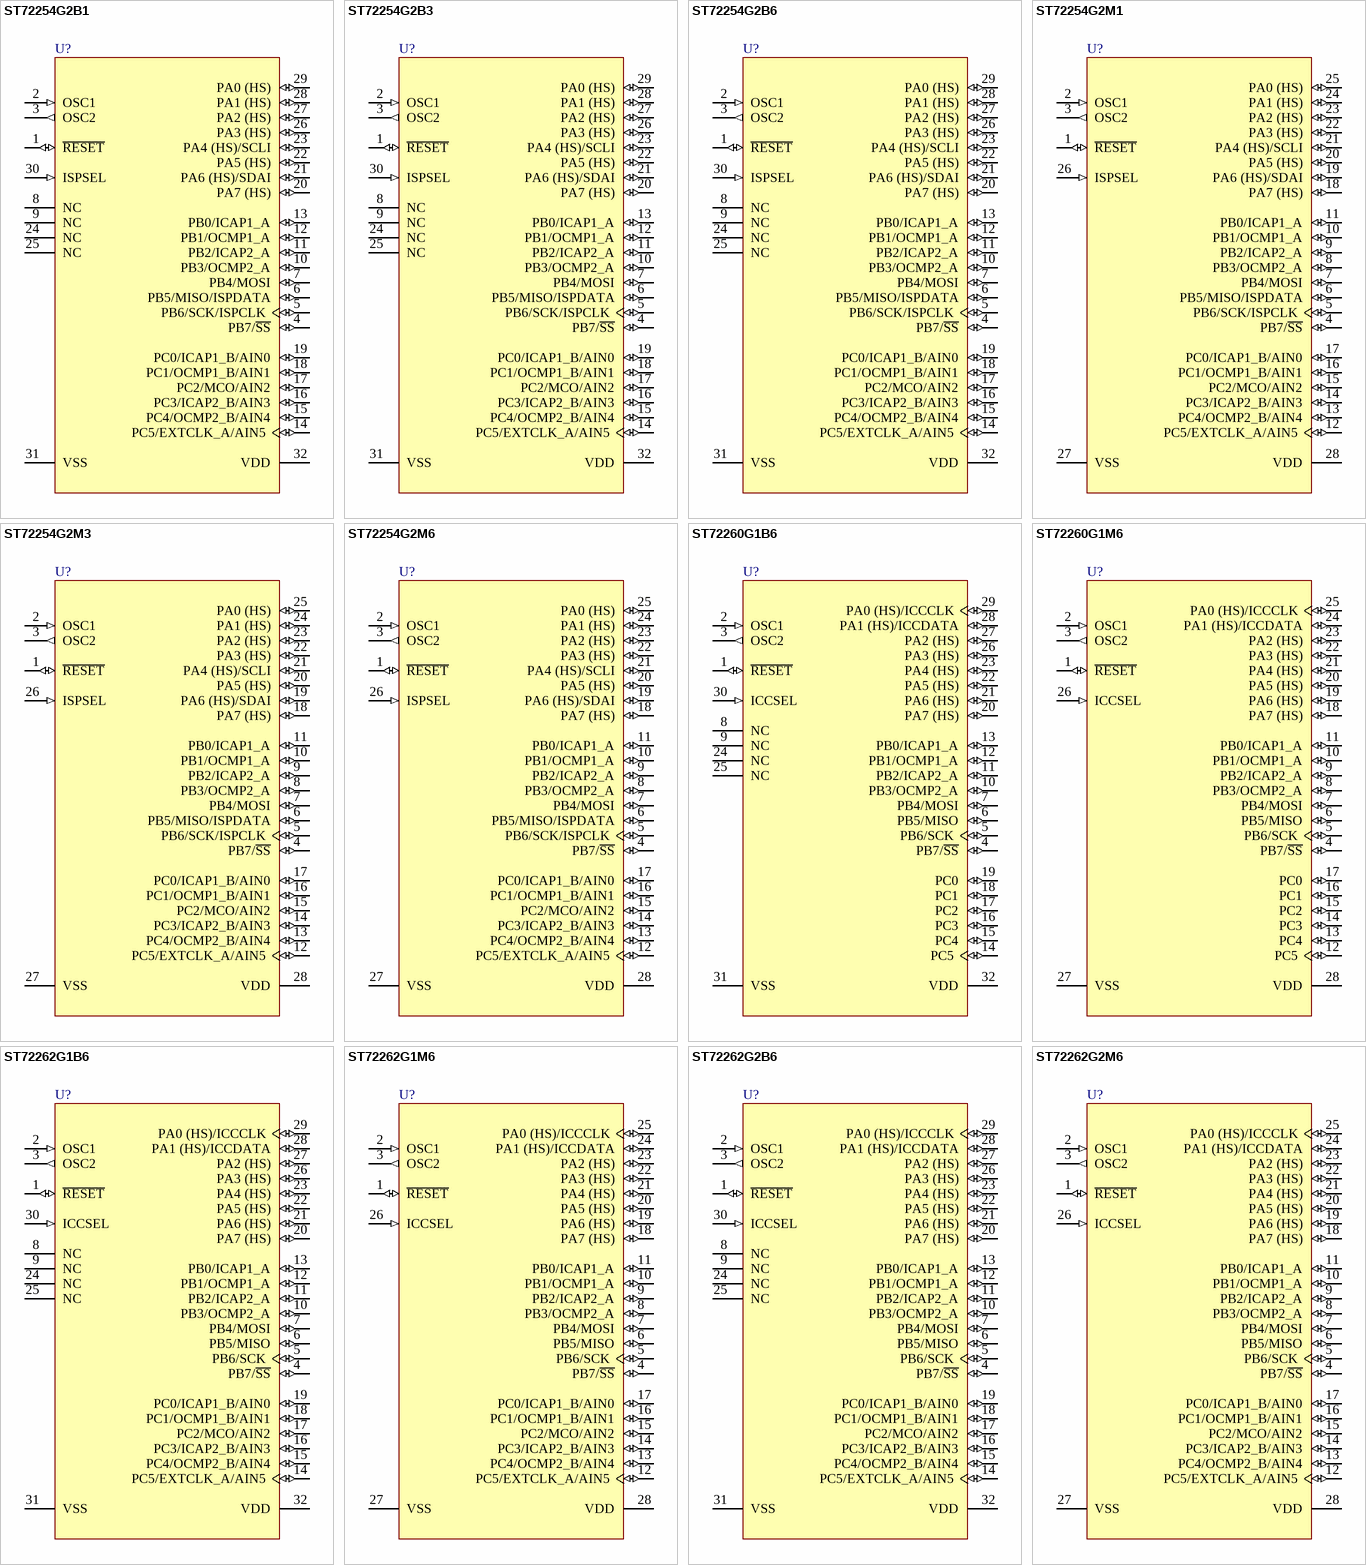
[diagram p102: symbols ST72254G2B1 to ST72262G2M6]

## ST72254G2B1
designator U?
8-Bit 8k ROM MCU, 256b RAM, WDG, ADC, 16-Bit Timers, SPI and I²C Interface, 32-Pin PDIP, Standard; PackageDocument: rev1.7, Oct-2001; Note: Pins 4-7, 14-23 and 26-29 are External Interrupt (EI) pins.; Published: 26-May-2004; DatasheetDocument: rev2.6, Nov-2000; PackageReference: PSDIP32; Publisher: Altium Limited
footprint PSDIP32 (DIP, Plastic Shrink; 32 Leads; Row Spacing 10.16 mm; Pitch 1.78 mm)
pins: 1 ~{RESET} (io), 2 OSC1 (in), 3 OSC2 (out), 4 PB7/~{SS} (io), 5 PB6/SCK/ISPCLK (io), 6 PB5/MISO/ISPDATA (io), 7 PB4/MOSI (io), 8 NC, 9 NC, 10 PB3/OCMP2_A (io), 11 PB2/ICAP2_A (io), 12 PB1/OCMP1_A (io), 13 PB0/ICAP1_A (io), 14 PC5/EXTCLK_A/AIN5 (io), 15 PC4/OCMP2_B/AIN4 (io), 16 PC3/ICAP2_B/AIN3 (io), 17 PC2/MCO/AIN2 (io), 18 PC1/OCMP1_B/AIN1 (io), 19 PC0/ICAP1_B/AIN0 (io), 20 PA7 (HS) (io), 21 PA6 (HS)/SDAI (io), 22 PA5 (HS) (io), 23 PA4 (HS)/SCLI (io), 24 NC, 25 NC, 26 PA3 (HS) (io), 27 PA2 (HS) (io), 28 PA1 (HS) (io), 29 PA0 (HS) (io), 30 ISPSEL (in), 31 VSS (power), 32 VDD (power)

## ST72254G2B3
designator U?
8-Bit 8k ROM MCU, 256b RAM, WDG, ADC, 16-Bit Timers, SPI and I²C Interface, 32-Pin PDIP, Automotive; PackageDocument: rev1.7, Oct-2001; Note: Pins 4-7, 14-23 and 26-29 are External Interrupt (EI) pins.; Published: 26-May-2004; DatasheetDocument: rev2.6, Nov-2000; PackageReference: PSDIP32; Publisher: Altium Limited
footprint PSDIP32 (DIP, Plastic Shrink; 32 Leads; Row Spacing 10.16 mm; Pitch 1.78 mm)
pins: 1 ~{RESET} (io), 2 OSC1 (in), 3 OSC2 (out), 4 PB7/~{SS} (io), 5 PB6/SCK/ISPCLK (io), 6 PB5/MISO/ISPDATA (io), 7 PB4/MOSI (io), 8 NC, 9 NC, 10 PB3/OCMP2_A (io), 11 PB2/ICAP2_A (io), 12 PB1/OCMP1_A (io), 13 PB0/ICAP1_A (io), 14 PC5/EXTCLK_A/AIN5 (io), 15 PC4/OCMP2_B/AIN4 (io), 16 PC3/ICAP2_B/AIN3 (io), 17 PC2/MCO/AIN2 (io), 18 PC1/OCMP1_B/AIN1 (io), 19 PC0/ICAP1_B/AIN0 (io), 20 PA7 (HS) (io), 21 PA6 (HS)/SDAI (io), 22 PA5 (HS) (io), 23 PA4 (HS)/SCLI (io), 24 NC, 25 NC, 26 PA3 (HS) (io), 27 PA2 (HS) (io), 28 PA1 (HS) (io), 29 PA0 (HS) (io), 30 ISPSEL (in), 31 VSS (power), 32 VDD (power)

## ST72254G2B6
designator U?
8-Bit 8k ROM MCU, 256b RAM, WDG, ADC, 16-Bit Timers, SPI and I²C Interface, 32-Pin PDIP, Industrial; PackageDocument: rev1.7, Oct-2001; Note: Pins 4-7, 14-23 and 26-29 are External Interrupt (EI) pins.; Published: 26-May-2004; DatasheetDocument: rev2.6, Nov-2000; PackageReference: PSDIP32; Publisher: Altium Limited
footprint PSDIP32 (DIP, Plastic Shrink; 32 Leads; Row Spacing 10.16 mm; Pitch 1.78 mm)
pins: 1 ~{RESET} (io), 2 OSC1 (in), 3 OSC2 (out), 4 PB7/~{SS} (io), 5 PB6/SCK/ISPCLK (io), 6 PB5/MISO/ISPDATA (io), 7 PB4/MOSI (io), 8 NC, 9 NC, 10 PB3/OCMP2_A (io), 11 PB2/ICAP2_A (io), 12 PB1/OCMP1_A (io), 13 PB0/ICAP1_A (io), 14 PC5/EXTCLK_A/AIN5 (io), 15 PC4/OCMP2_B/AIN4 (io), 16 PC3/ICAP2_B/AIN3 (io), 17 PC2/MCO/AIN2 (io), 18 PC1/OCMP1_B/AIN1 (io), 19 PC0/ICAP1_B/AIN0 (io), 20 PA7 (HS) (io), 21 PA6 (HS)/SDAI (io), 22 PA5 (HS) (io), 23 PA4 (HS)/SCLI (io), 24 NC, 25 NC, 26 PA3 (HS) (io), 27 PA2 (HS) (io), 28 PA1 (HS) (io), 29 PA0 (HS) (io), 30 ISPSEL (in), 31 VSS (power), 32 VDD (power)

## ST72254G2M1
designator U?
8-Bit 8k ROM MCU, 256b RAM, WDG, ADC, 16-Bit Timers, SPI and I²C Interface, 28-Pin SOIC, Standard; Note: Pins 4-25 are External Interrupt (EI) pins.; Published: 26-May-2004; DatasheetDocument: rev2.6, Nov-2000; PackageDocument: Jul-2001; PackageReference: SO28; Publisher: Altium Limited; Code_IPC: SO28W
footprint SO28 (Small Outline, Plastic; 28 Leads; Body Width 7.5 mm; Pitch 1.27 mm)
pins: 1 ~{RESET} (io), 2 OSC1 (in), 3 OSC2 (out), 4 PB7/~{SS} (io), 5 PB6/SCK/ISPCLK (io), 6 PB5/MISO/ISPDATA (io), 7 PB4/MOSI (io), 8 PB3/OCMP2_A (io), 9 PB2/ICAP2_A (io), 10 PB1/OCMP1_A (io), 11 PB0/ICAP1_A (io), 12 PC5/EXTCLK_A/AIN5 (io), 13 PC4/OCMP2_B/AIN4 (io), 14 PC3/ICAP2_B/AIN3 (io), 15 PC2/MCO/AIN2 (io), 16 PC1/OCMP1_B/AIN1 (io), 17 PC0/ICAP1_B/AIN0 (io), 18 PA7 (HS) (io), 19 PA6 (HS)/SDAI (io), 20 PA5 (HS) (io), 21 PA4 (HS)/SCLI (io), 22 PA3 (HS) (io), 23 PA2 (HS) (io), 24 PA1 (HS) (io), 25 PA0 (HS) (io), 26 ISPSEL (in), 27 VSS (power), 28 VDD (power)

## ST72254G2M3
designator U?
8-Bit 8k ROM MCU, 256b RAM, WDG, ADC, 16-Bit Timers, SPI and I²C Interface, 28-Pin SOIC, Automotive; Note: Pins 4-25 are External Interrupt (EI) pins.; Published: 26-May-2004; DatasheetDocument: rev2.6, Nov-2000; PackageDocument: Jul-2001; PackageReference: SO28; Publisher: Altium Limited; Code_IPC: SO28W
footprint SO28 (Small Outline, Plastic; 28 Leads; Body Width 7.5 mm; Pitch 1.27 mm)
pins: 1 ~{RESET} (io), 2 OSC1 (in), 3 OSC2 (out), 4 PB7/~{SS} (io), 5 PB6/SCK/ISPCLK (io), 6 PB5/MISO/ISPDATA (io), 7 PB4/MOSI (io), 8 PB3/OCMP2_A (io), 9 PB2/ICAP2_A (io), 10 PB1/OCMP1_A (io), 11 PB0/ICAP1_A (io), 12 PC5/EXTCLK_A/AIN5 (io), 13 PC4/OCMP2_B/AIN4 (io), 14 PC3/ICAP2_B/AIN3 (io), 15 PC2/MCO/AIN2 (io), 16 PC1/OCMP1_B/AIN1 (io), 17 PC0/ICAP1_B/AIN0 (io), 18 PA7 (HS) (io), 19 PA6 (HS)/SDAI (io), 20 PA5 (HS) (io), 21 PA4 (HS)/SCLI (io), 22 PA3 (HS) (io), 23 PA2 (HS) (io), 24 PA1 (HS) (io), 25 PA0 (HS) (io), 26 ISPSEL (in), 27 VSS (power), 28 VDD (power)

## ST72254G2M6
designator U?
8-Bit 8k ROM MCU, 256b RAM, WDG, ADC, 16-Bit Timers, SPI and I²C Interface, 28-Pin SOIC, Industrial; Note: Pins 4-25 are External Interrupt (EI) pins.; Published: 26-May-2004; DatasheetDocument: rev2.6, Nov-2000; PackageDocument: Jul-2001; PackageReference: SO28; Publisher: Altium Limited; Code_IPC: SO28W
footprint SO28 (Small Outline, Plastic; 28 Leads; Body Width 7.5 mm; Pitch 1.27 mm)
pins: 1 ~{RESET} (io), 2 OSC1 (in), 3 OSC2 (out), 4 PB7/~{SS} (io), 5 PB6/SCK/ISPCLK (io), 6 PB5/MISO/ISPDATA (io), 7 PB4/MOSI (io), 8 PB3/OCMP2_A (io), 9 PB2/ICAP2_A (io), 10 PB1/OCMP1_A (io), 11 PB0/ICAP1_A (io), 12 PC5/EXTCLK_A/AIN5 (io), 13 PC4/OCMP2_B/AIN4 (io), 14 PC3/ICAP2_B/AIN3 (io), 15 PC2/MCO/AIN2 (io), 16 PC1/OCMP1_B/AIN1 (io), 17 PC0/ICAP1_B/AIN0 (io), 18 PA7 (HS) (io), 19 PA6 (HS)/SDAI (io), 20 PA5 (HS) (io), 21 PA4 (HS)/SCLI (io), 22 PA3 (HS) (io), 23 PA2 (HS) (io), 24 PA1 (HS) (io), 25 PA0 (HS) (io), 26 ISPSEL (in), 27 VSS (power), 28 VDD (power)